# Altium schematic symbol library MCU_ST_STM32F0.SchLib: 133 symbols (part 1 of 3)
Pins are listed as number, name and electrical type; pins without a type are passive.

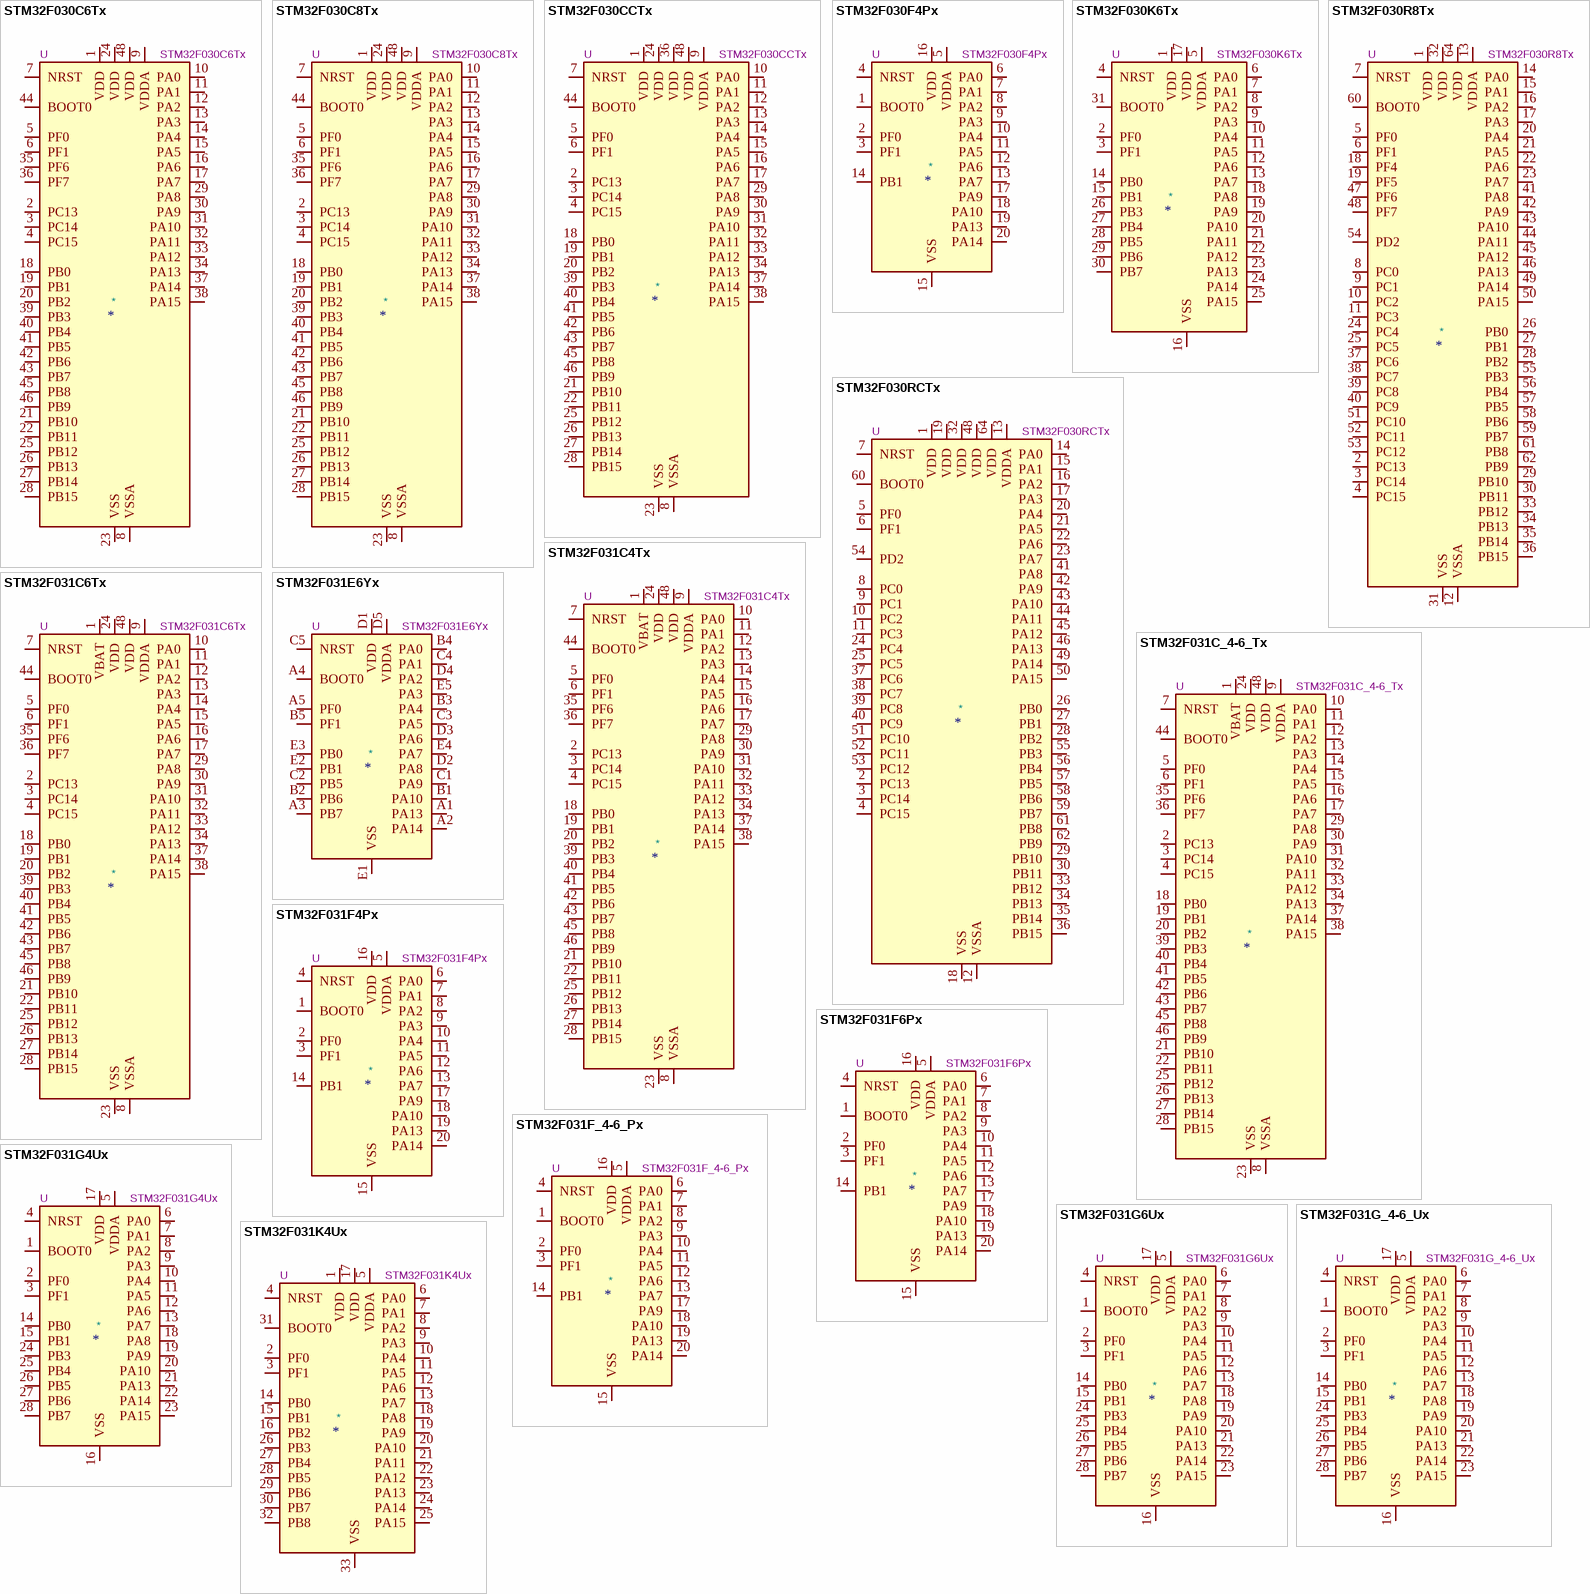
[diagram p0: symbols STM32F030C6Tx to STM32F031K4Ux]

## STM32F030C6Tx
designator *  value STM32F030C6Tx  Reference: U
ki_keywords: Arm Cortex-M0 STM32F0 STM32F0x0 Value Line; ki_description: STMicroelectronics Arm Cortex-M0 MCU, 32KB flash, 4KB RAM, 48 MHz, 2.4-3.6V, 39 GPIO, LQFP48; ki_fp_filters: LQFP*7x7mm*P0.5mm*; Footprint: Package_QFP:LQFP-48_7x7mm_P0.5mm; Datasheet: https://www.st.com/resource/en/datasheet/stm32f030c6.pdf
pins: 1 VDD, 2 PC13, 3 PC14, 4 PC15, 5 PF0, 6 PF1, 7 NRST, 8 VSSA, 9 VDDA, 10 PA0, 11 PA1, 12 PA2, 13 PA3, 14 PA4, 15 PA5, 16 PA6, 17 PA7, 18 PB0, 19 PB1, 20 PB2, 21 PB10, 22 PB11, 23 VSS, 24 VDD, 25 PB12, 26 PB13, 27 PB14, 28 PB15, 29 PA8, 30 PA9, 31 PA10, 32 PA11, 33 PA12, 34 PA13, 35 PF6, 36 PF7, 37 PA14, 38 PA15, 39 PB3, 40 PB4, 41 PB5, 42 PB6, 43 PB7, 44 BOOT0, 45 PB8, 46 PB9, 47 VSS hidden, 48 VDD

## STM32F030C8Tx
designator *  value STM32F030C8Tx  Reference: U
ki_keywords: Arm Cortex-M0 STM32F0 STM32F0x0 Value Line; ki_description: STMicroelectronics Arm Cortex-M0 MCU, 64KB flash, 8KB RAM, 48 MHz, 2.4-3.6V, 39 GPIO, LQFP48; ki_fp_filters: LQFP*7x7mm*P0.5mm*; Footprint: Package_QFP:LQFP-48_7x7mm_P0.5mm; Datasheet: https://www.st.com/resource/en/datasheet/stm32f030c8.pdf
pins: 1 VDD, 2 PC13, 3 PC14, 4 PC15, 5 PF0, 6 PF1, 7 NRST, 8 VSSA, 9 VDDA, 10 PA0, 11 PA1, 12 PA2, 13 PA3, 14 PA4, 15 PA5, 16 PA6, 17 PA7, 18 PB0, 19 PB1, 20 PB2, 21 PB10, 22 PB11, 23 VSS, 24 VDD, 25 PB12, 26 PB13, 27 PB14, 28 PB15, 29 PA8, 30 PA9, 31 PA10, 32 PA11, 33 PA12, 34 PA13, 35 PF6, 36 PF7, 37 PA14, 38 PA15, 39 PB3, 40 PB4, 41 PB5, 42 PB6, 43 PB7, 44 BOOT0, 45 PB8, 46 PB9, 47 VSS hidden, 48 VDD

## STM32F030CCTx
designator *  value STM32F030CCTx  Reference: U
ki_keywords: Arm Cortex-M0 STM32F0 STM32F0x0 Value Line; ki_description: STMicroelectronics Arm Cortex-M0 MCU, 256KB flash, 32KB RAM, 48 MHz, 2.4-3.6V, 37 GPIO, LQFP48; ki_fp_filters: LQFP*7x7mm*P0.5mm*; Footprint: Package_QFP:LQFP-48_7x7mm_P0.5mm; Datasheet: https://www.st.com/resource/en/datasheet/stm32f030cc.pdf
pins: 1 VDD, 2 PC13, 3 PC14, 4 PC15, 5 PF0, 6 PF1, 7 NRST, 8 VSSA, 9 VDDA, 10 PA0, 11 PA1, 12 PA2, 13 PA3, 14 PA4, 15 PA5, 16 PA6, 17 PA7, 18 PB0, 19 PB1, 20 PB2, 21 PB10, 22 PB11, 23 VSS, 24 VDD, 25 PB12, 26 PB13, 27 PB14, 28 PB15, 29 PA8, 30 PA9, 31 PA10, 32 PA11, 33 PA12, 34 PA13, 35 VSS hidden, 36 VDD, 37 PA14, 38 PA15, 39 PB3, 40 PB4, 41 PB5, 42 PB6, 43 PB7, 44 BOOT0, 45 PB8, 46 PB9, 47 VSS hidden, 48 VDD

## STM32F030F4Px
designator *  value STM32F030F4Px  Reference: U
ki_keywords: Arm Cortex-M0 STM32F0 STM32F0x0 Value Line; ki_description: STMicroelectronics Arm Cortex-M0 MCU, 16KB flash, 4KB RAM, 48 MHz, 2.4-3.6V, 15 GPIO, TSSOP20; ki_fp_filters: TSSOP*4.4x6.5mm*P0.65mm*; Footprint: Package_SO:TSSOP-20_4.4x6.5mm_P0.65mm; Datasheet: https://www.st.com/resource/en/datasheet/stm32f030f4.pdf
pins: 1 BOOT0, 2 PF0, 3 PF1, 4 NRST, 5 VDDA, 6 PA0, 7 PA1, 8 PA2, 9 PA3, 10 PA4, 11 PA5, 12 PA6, 13 PA7, 14 PB1, 15 VSS, 16 VDD, 17 PA9, 18 PA10, 19 PA13, 20 PA14

## STM32F030K6Tx
designator *  value STM32F030K6Tx  Reference: U
ki_keywords: Arm Cortex-M0 STM32F0 STM32F0x0 Value Line; ki_description: STMicroelectronics Arm Cortex-M0 MCU, 32KB flash, 4KB RAM, 48 MHz, 2.4-3.6V, 25 GPIO, LQFP32; ki_fp_filters: LQFP*7x7mm*P0.8mm*; Footprint: Package_QFP:LQFP-32_7x7mm_P0.8mm; Datasheet: https://www.st.com/resource/en/datasheet/stm32f030k6.pdf
pins: 1 VDD, 2 PF0, 3 PF1, 4 NRST, 5 VDDA, 6 PA0, 7 PA1, 8 PA2, 9 PA3, 10 PA4, 11 PA5, 12 PA6, 13 PA7, 14 PB0, 15 PB1, 16 VSS, 17 VDD, 18 PA8, 19 PA9, 20 PA10, 21 PA11, 22 PA12, 23 PA13, 24 PA14, 25 PA15, 26 PB3, 27 PB4, 28 PB5, 29 PB6, 30 PB7, 31 BOOT0, 32 VSS hidden

## STM32F030R8Tx
designator *  value STM32F030R8Tx  Reference: U
ki_keywords: Arm Cortex-M0 STM32F0 STM32F0x0 Value Line; ki_description: STMicroelectronics Arm Cortex-M0 MCU, 64KB flash, 8KB RAM, 48 MHz, 2.4-3.6V, 55 GPIO, LQFP64; ki_fp_filters: LQFP*10x10mm*P0.5mm*; Footprint: Package_QFP:LQFP-64_10x10mm_P0.5mm; Datasheet: https://www.st.com/resource/en/datasheet/stm32f030r8.pdf
pins: 1 VDD, 2 PC13, 3 PC14, 4 PC15, 5 PF0, 6 PF1, 7 NRST, 8 PC0, 9 PC1, 10 PC2, 11 PC3, 12 VSSA, 13 VDDA, 14 PA0, 15 PA1, 16 PA2, 17 PA3, 18 PF4, 19 PF5, 20 PA4, 21 PA5, 22 PA6, 23 PA7, 24 PC4, 25 PC5, 26 PB0, 27 PB1, 28 PB2, 29 PB10, 30 PB11, 31 VSS, 32 VDD, 33 PB12, 34 PB13, 35 PB14, 36 PB15, 37 PC6, 38 PC7, 39 PC8, 40 PC9, 41 PA8, 42 PA9, 43 PA10, 44 PA11, 45 PA12, 46 PA13, 47 PF6, 48 PF7, 49 PA14, 50 PA15, 51 PC10, 52 PC11, 53 PC12, 54 PD2, 55 PB3, 56 PB4, 57 PB5, 58 PB6, 59 PB7, 60 BOOT0, 61 PB8, 62 PB9, 63 VSS hidden, 64 VDD

## STM32F030RCTx
designator *  value STM32F030RCTx  Reference: U
ki_keywords: Arm Cortex-M0 STM32F0 STM32F0x0 Value Line; ki_description: STMicroelectronics Arm Cortex-M0 MCU, 256KB flash, 32KB RAM, 48 MHz, 2.4-3.6V, 51 GPIO, LQFP64; ki_fp_filters: LQFP*10x10mm*P0.5mm*; Footprint: Package_QFP:LQFP-64_10x10mm_P0.5mm; Datasheet: https://www.st.com/resource/en/datasheet/stm32f030rc.pdf
pins: 1 VDD, 2 PC13, 3 PC14, 4 PC15, 5 PF0, 6 PF1, 7 NRST, 8 PC0, 9 PC1, 10 PC2, 11 PC3, 12 VSSA, 13 VDDA, 14 PA0, 15 PA1, 16 PA2, 17 PA3, 18 VSS, 19 VDD, 20 PA4, 21 PA5, 22 PA6, 23 PA7, 24 PC4, 25 PC5, 26 PB0, 27 PB1, 28 PB2, 29 PB10, 30 PB11, 31 VSS hidden, 32 VDD, 33 PB12, 34 PB13, 35 PB14, 36 PB15, 37 PC6, 38 PC7, 39 PC8, 40 PC9, 41 PA8, 42 PA9, 43 PA10, 44 PA11, 45 PA12, 46 PA13, 47 VSS hidden, 48 VDD, 49 PA14, 50 PA15, 51 PC10, 52 PC11, 53 PC12, 54 PD2, 55 PB3, 56 PB4, 57 PB5, 58 PB6, 59 PB7, 60 BOOT0, 61 PB8, 62 PB9, 63 VSS hidden, 64 VDD

## STM32F031C4Tx
designator *  value STM32F031C4Tx  Reference: U
ki_keywords: Arm Cortex-M0 STM32F0 STM32F0x1; ki_description: STMicroelectronics Arm Cortex-M0 MCU, 16KB flash, 4KB RAM, 48 MHz, 2.0-3.6V, 39 GPIO, LQFP48; ki_fp_filters: LQFP*7x7mm*P0.5mm*; Footprint: Package_QFP:LQFP-48_7x7mm_P0.5mm; Datasheet: https://www.st.com/resource/en/datasheet/stm32f031c4.pdf
pins: 1 VBAT, 2 PC13, 3 PC14, 4 PC15, 5 PF0, 6 PF1, 7 NRST, 8 VSSA, 9 VDDA, 10 PA0, 11 PA1, 12 PA2, 13 PA3, 14 PA4, 15 PA5, 16 PA6, 17 PA7, 18 PB0, 19 PB1, 20 PB2, 21 PB10, 22 PB11, 23 VSS, 24 VDD, 25 PB12, 26 PB13, 27 PB14, 28 PB15, 29 PA8, 30 PA9, 31 PA10, 32 PA11, 33 PA12, 34 PA13, 35 PF6, 36 PF7, 37 PA14, 38 PA15, 39 PB3, 40 PB4, 41 PB5, 42 PB6, 43 PB7, 44 BOOT0, 45 PB8, 46 PB9, 47 VSS hidden, 48 VDD

## STM32F031C6Tx
designator *  value STM32F031C6Tx  Reference: U
ki_keywords: Arm Cortex-M0 STM32F0 STM32F0x1; ki_description: STMicroelectronics Arm Cortex-M0 MCU, 32KB flash, 4KB RAM, 48 MHz, 2.0-3.6V, 39 GPIO, LQFP48; ki_fp_filters: LQFP*7x7mm*P0.5mm*; Footprint: Package_QFP:LQFP-48_7x7mm_P0.5mm; Datasheet: https://www.st.com/resource/en/datasheet/stm32f031c6.pdf
pins: 1 VBAT, 2 PC13, 3 PC14, 4 PC15, 5 PF0, 6 PF1, 7 NRST, 8 VSSA, 9 VDDA, 10 PA0, 11 PA1, 12 PA2, 13 PA3, 14 PA4, 15 PA5, 16 PA6, 17 PA7, 18 PB0, 19 PB1, 20 PB2, 21 PB10, 22 PB11, 23 VSS, 24 VDD, 25 PB12, 26 PB13, 27 PB14, 28 PB15, 29 PA8, 30 PA9, 31 PA10, 32 PA11, 33 PA12, 34 PA13, 35 PF6, 36 PF7, 37 PA14, 38 PA15, 39 PB3, 40 PB4, 41 PB5, 42 PB6, 43 PB7, 44 BOOT0, 45 PB8, 46 PB9, 47 VSS hidden, 48 VDD

## STM32F031C_4-6_Tx
designator *  value STM32F031C_4-6_Tx  Reference: U
ki_keywords: Arm Cortex-M0 STM32F0 STM32F0x1; ki_description: STMicroelectronics Arm Cortex-M0 MCU, 16-32KB flash, 4KB RAM, 48 MHz, 2.0-3.6V, 39 GPIO, LQFP48; ki_fp_filters: LQFP*7x7mm*P0.5mm*; Footprint: Package_QFP:LQFP-48_7x7mm_P0.5mm; Datasheet: https://www.st.com/resource/en/datasheet/stm32f031c4.pdf
pins: 1 VBAT, 2 PC13, 3 PC14, 4 PC15, 5 PF0, 6 PF1, 7 NRST, 8 VSSA, 9 VDDA, 10 PA0, 11 PA1, 12 PA2, 13 PA3, 14 PA4, 15 PA5, 16 PA6, 17 PA7, 18 PB0, 19 PB1, 20 PB2, 21 PB10, 22 PB11, 23 VSS, 24 VDD, 25 PB12, 26 PB13, 27 PB14, 28 PB15, 29 PA8, 30 PA9, 31 PA10, 32 PA11, 33 PA12, 34 PA13, 35 PF6, 36 PF7, 37 PA14, 38 PA15, 39 PB3, 40 PB4, 41 PB5, 42 PB6, 43 PB7, 44 BOOT0, 45 PB8, 46 PB9, 47 VSS hidden, 48 VDD

## STM32F031E6Yx
designator *  value STM32F031E6Yx  Reference: U
ki_keywords: Arm Cortex-M0 STM32F0 STM32F0x1; ki_description: STMicroelectronics Arm Cortex-M0 MCU, 32KB flash, 4KB RAM, 48 MHz, 2.0-3.6V, 20 GPIO, WLCSP25; ki_fp_filters: ST*WLCSP*Die444*; Footprint: Package_CSP:ST_WLCSP-25_Die444; Datasheet: https://www.st.com/resource/en/datasheet/stm32f031e6.pdf
pins: A1 PA13, A2 PA14, A3 PB7, A4 BOOT0, A5 PF0, B1 PA10, B2 PB6, B3 PA4, B4 PA0, B5 PF1, C1 PA9, C2 PB5, C3 PA5, C4 PA1, C5 NRST, D1 VDD, D2 PA8, D3 PA6, D4 PA2, D5 VDDA, E1 VSS, E2 PB1, E3 PB0, E4 PA7, E5 PA3

## STM32F031F4Px
designator *  value STM32F031F4Px  Reference: U
ki_keywords: Arm Cortex-M0 STM32F0 STM32F0x1; ki_description: STMicroelectronics Arm Cortex-M0 MCU, 16KB flash, 4KB RAM, 48 MHz, 2.0-3.6V, 15 GPIO, TSSOP20; ki_fp_filters: TSSOP*4.4x6.5mm*P0.65mm*; Footprint: Package_SO:TSSOP-20_4.4x6.5mm_P0.65mm; Datasheet: https://www.st.com/resource/en/datasheet/stm32f031f4.pdf
pins: 1 BOOT0, 2 PF0, 3 PF1, 4 NRST, 5 VDDA, 6 PA0, 7 PA1, 8 PA2, 9 PA3, 10 PA4, 11 PA5, 12 PA6, 13 PA7, 14 PB1, 15 VSS, 16 VDD, 17 PA9, 18 PA10, 19 PA13, 20 PA14

## STM32F031F6Px
designator *  value STM32F031F6Px  Reference: U
ki_keywords: Arm Cortex-M0 STM32F0 STM32F0x1; ki_description: STMicroelectronics Arm Cortex-M0 MCU, 32KB flash, 4KB RAM, 48 MHz, 2.0-3.6V, 15 GPIO, TSSOP20; ki_fp_filters: TSSOP*4.4x6.5mm*P0.65mm*; Footprint: Package_SO:TSSOP-20_4.4x6.5mm_P0.65mm; Datasheet: https://www.st.com/resource/en/datasheet/stm32f031f6.pdf
pins: 1 BOOT0, 2 PF0, 3 PF1, 4 NRST, 5 VDDA, 6 PA0, 7 PA1, 8 PA2, 9 PA3, 10 PA4, 11 PA5, 12 PA6, 13 PA7, 14 PB1, 15 VSS, 16 VDD, 17 PA9, 18 PA10, 19 PA13, 20 PA14

## STM32F031F_4-6_Px
designator *  value STM32F031F_4-6_Px  Reference: U
ki_keywords: Arm Cortex-M0 STM32F0 STM32F0x1; ki_description: STMicroelectronics Arm Cortex-M0 MCU, 16-32KB flash, 4KB RAM, 48 MHz, 2.0-3.6V, 15 GPIO, TSSOP20; ki_fp_filters: TSSOP*4.4x6.5mm*P0.65mm*; Footprint: Package_SO:TSSOP-20_4.4x6.5mm_P0.65mm; Datasheet: https://www.st.com/resource/en/datasheet/stm32f031f4.pdf
pins: 1 BOOT0, 2 PF0, 3 PF1, 4 NRST, 5 VDDA, 6 PA0, 7 PA1, 8 PA2, 9 PA3, 10 PA4, 11 PA5, 12 PA6, 13 PA7, 14 PB1, 15 VSS, 16 VDD, 17 PA9, 18 PA10, 19 PA13, 20 PA14

## STM32F031G4Ux
designator *  value STM32F031G4Ux  Reference: U
ki_keywords: Arm Cortex-M0 STM32F0 STM32F0x1; ki_description: STMicroelectronics Arm Cortex-M0 MCU, 16KB flash, 4KB RAM, 48 MHz, 2.0-3.6V, 23 GPIO, UFQFPN28; ki_fp_filters: QFN*4x4mm*P0.5mm*; Footprint: Package_DFN_QFN:QFN-28_4x4mm_P0.5mm; Datasheet: https://www.st.com/resource/en/datasheet/stm32f031g4.pdf
pins: 1 BOOT0, 2 PF0, 3 PF1, 4 NRST, 5 VDDA, 6 PA0, 7 PA1, 8 PA2, 9 PA3, 10 PA4, 11 PA5, 12 PA6, 13 PA7, 14 PB0, 15 PB1, 16 VSS, 17 VDD, 18 PA8, 19 PA9, 20 PA10, 21 PA13, 22 PA14, 23 PA15, 24 PB3, 25 PB4, 26 PB5, 27 PB6, 28 PB7

## STM32F031G6Ux
designator *  value STM32F031G6Ux  Reference: U
ki_keywords: Arm Cortex-M0 STM32F0 STM32F0x1; ki_description: STMicroelectronics Arm Cortex-M0 MCU, 32KB flash, 4KB RAM, 48 MHz, 2.0-3.6V, 23 GPIO, UFQFPN28; ki_fp_filters: QFN*4x4mm*P0.5mm*; Footprint: Package_DFN_QFN:QFN-28_4x4mm_P0.5mm; Datasheet: https://www.st.com/resource/en/datasheet/stm32f031g6.pdf
pins: 1 BOOT0, 2 PF0, 3 PF1, 4 NRST, 5 VDDA, 6 PA0, 7 PA1, 8 PA2, 9 PA3, 10 PA4, 11 PA5, 12 PA6, 13 PA7, 14 PB0, 15 PB1, 16 VSS, 17 VDD, 18 PA8, 19 PA9, 20 PA10, 21 PA13, 22 PA14, 23 PA15, 24 PB3, 25 PB4, 26 PB5, 27 PB6, 28 PB7

## STM32F031G_4-6_Ux
designator *  value STM32F031G_4-6_Ux  Reference: U
ki_keywords: Arm Cortex-M0 STM32F0 STM32F0x1; ki_description: STMicroelectronics Arm Cortex-M0 MCU, 16-32KB flash, 4KB RAM, 48 MHz, 2.0-3.6V, 23 GPIO, UFQFPN28; ki_fp_filters: QFN*4x4mm*P0.5mm*; Footprint: Package_DFN_QFN:QFN-28_4x4mm_P0.5mm; Datasheet: https://www.st.com/resource/en/datasheet/stm32f031g4.pdf
pins: 1 BOOT0, 2 PF0, 3 PF1, 4 NRST, 5 VDDA, 6 PA0, 7 PA1, 8 PA2, 9 PA3, 10 PA4, 11 PA5, 12 PA6, 13 PA7, 14 PB0, 15 PB1, 16 VSS, 17 VDD, 18 PA8, 19 PA9, 20 PA10, 21 PA13, 22 PA14, 23 PA15, 24 PB3, 25 PB4, 26 PB5, 27 PB6, 28 PB7

## STM32F031K4Ux
designator *  value STM32F031K4Ux  Reference: U
ki_keywords: Arm Cortex-M0 STM32F0 STM32F0x1; ki_description: STMicroelectronics Arm Cortex-M0 MCU, 16KB flash, 4KB RAM, 48 MHz, 2.0-3.6V, 27 GPIO, UFQFPN32; ki_fp_filters: QFN*1EP*5x5mm*P0.5mm*; Footprint: Package_DFN_QFN:QFN-32-1EP_5x5mm_P0.5mm_EP3.45x3.45mm; Datasheet: https://www.st.com/resource/en/datasheet/stm32f031k4.pdf
pins: 1 VDD, 2 PF0, 3 PF1, 4 NRST, 5 VDDA, 6 PA0, 7 PA1, 8 PA2, 9 PA3, 10 PA4, 11 PA5, 12 PA6, 13 PA7, 14 PB0, 15 PB1, 16 PB2, 17 VDD, 18 PA8, 19 PA9, 20 PA10, 21 PA11, 22 PA12, 23 PA13, 24 PA14, 25 PA15, 26 PB3, 27 PB4, 28 PB5, 29 PB6, 30 PB7, 31 BOOT0, 32 PB8, 33 VSS

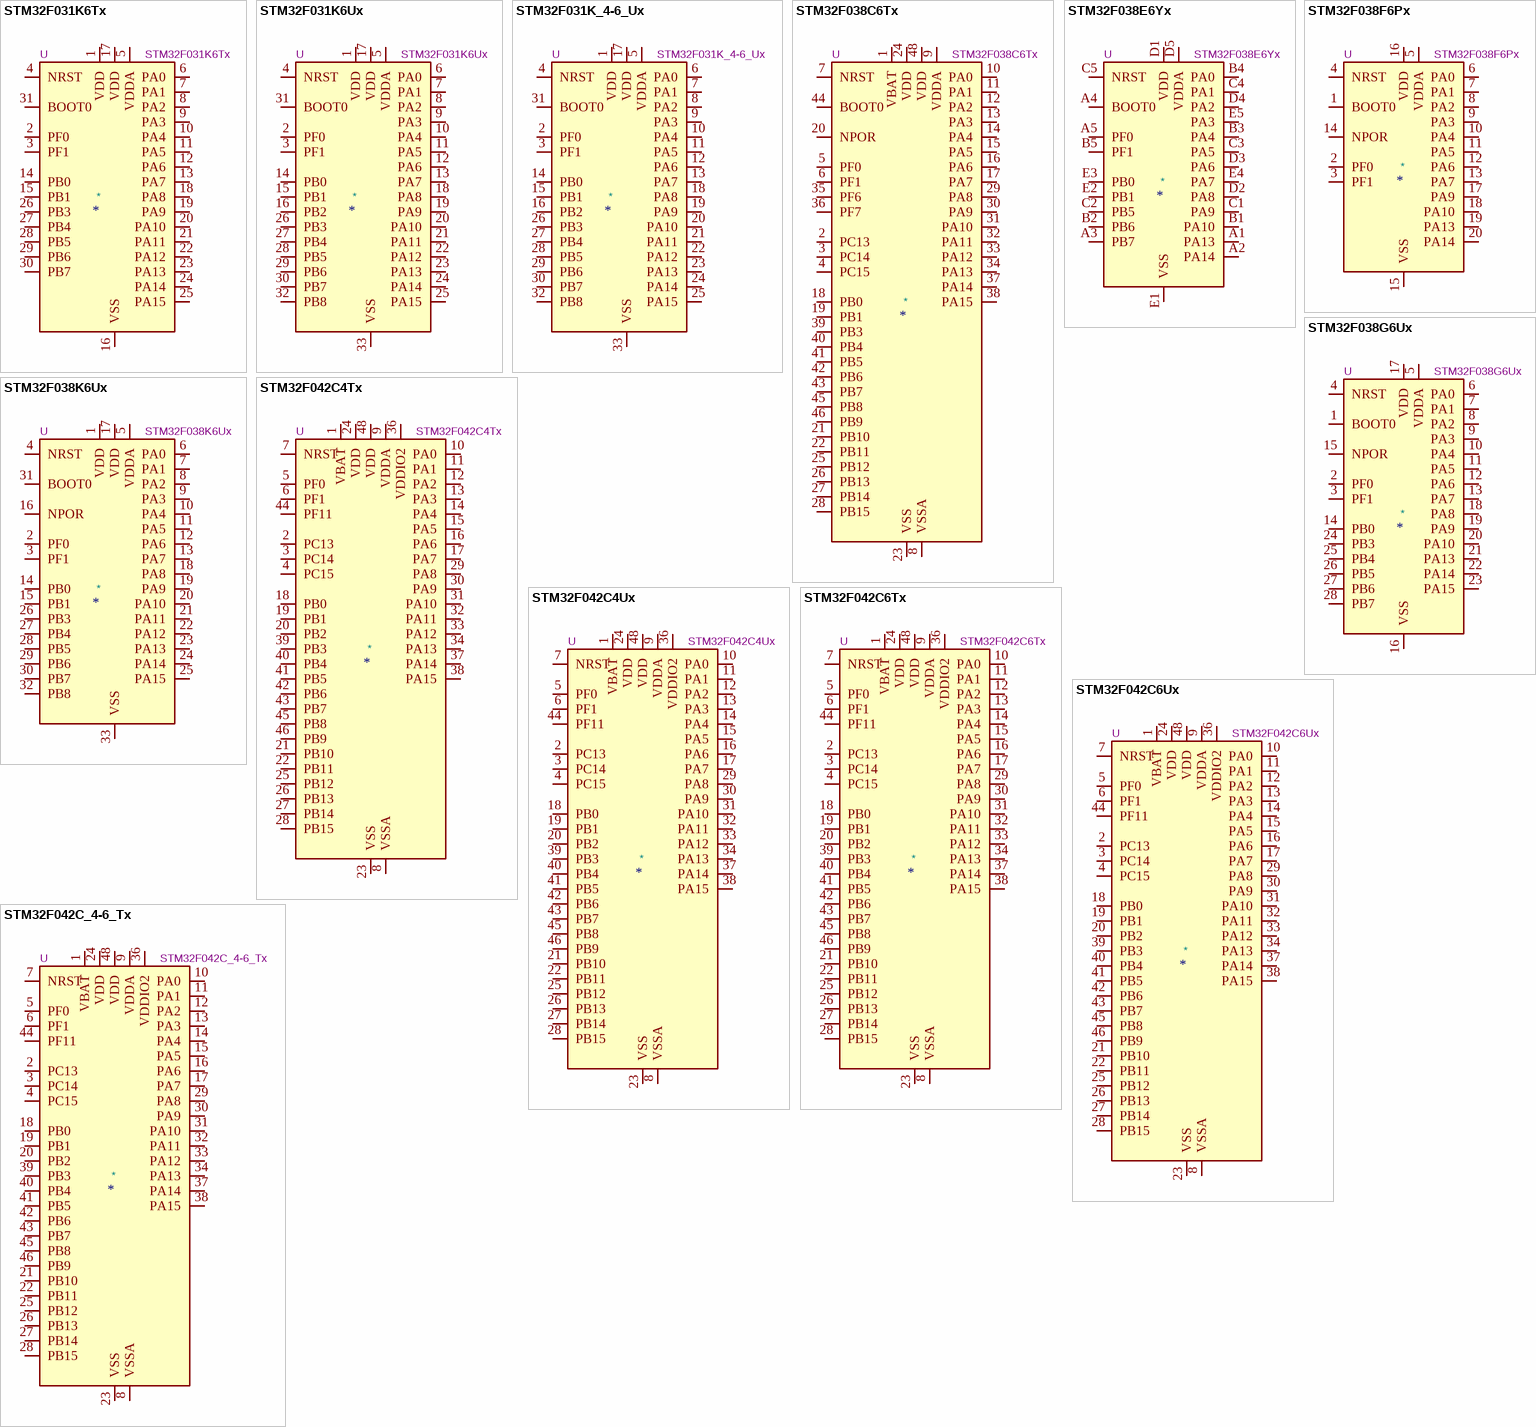
[diagram p1: symbols STM32F031K6Tx to STM32F042C_4-6_Tx]

## STM32F031K6Tx
designator *  value STM32F031K6Tx  Reference: U
ki_keywords: Arm Cortex-M0 STM32F0 STM32F0x1; ki_description: STMicroelectronics Arm Cortex-M0 MCU, 32KB flash, 4KB RAM, 48 MHz, 2.0-3.6V, 25 GPIO, LQFP32; ki_fp_filters: LQFP*7x7mm*P0.8mm*; Footprint: Package_QFP:LQFP-32_7x7mm_P0.8mm; Datasheet: https://www.st.com/resource/en/datasheet/stm32f031k6.pdf
pins: 1 VDD, 2 PF0, 3 PF1, 4 NRST, 5 VDDA, 6 PA0, 7 PA1, 8 PA2, 9 PA3, 10 PA4, 11 PA5, 12 PA6, 13 PA7, 14 PB0, 15 PB1, 16 VSS, 17 VDD, 18 PA8, 19 PA9, 20 PA10, 21 PA11, 22 PA12, 23 PA13, 24 PA14, 25 PA15, 26 PB3, 27 PB4, 28 PB5, 29 PB6, 30 PB7, 31 BOOT0, 32 VSS hidden

## STM32F031K6Ux
designator *  value STM32F031K6Ux  Reference: U
ki_keywords: Arm Cortex-M0 STM32F0 STM32F0x1; ki_description: STMicroelectronics Arm Cortex-M0 MCU, 32KB flash, 4KB RAM, 48 MHz, 2.0-3.6V, 27 GPIO, UFQFPN32; ki_fp_filters: QFN*1EP*5x5mm*P0.5mm*; Footprint: Package_DFN_QFN:QFN-32-1EP_5x5mm_P0.5mm_EP3.45x3.45mm; Datasheet: https://www.st.com/resource/en/datasheet/stm32f031k6.pdf
pins: 1 VDD, 2 PF0, 3 PF1, 4 NRST, 5 VDDA, 6 PA0, 7 PA1, 8 PA2, 9 PA3, 10 PA4, 11 PA5, 12 PA6, 13 PA7, 14 PB0, 15 PB1, 16 PB2, 17 VDD, 18 PA8, 19 PA9, 20 PA10, 21 PA11, 22 PA12, 23 PA13, 24 PA14, 25 PA15, 26 PB3, 27 PB4, 28 PB5, 29 PB6, 30 PB7, 31 BOOT0, 32 PB8, 33 VSS

## STM32F031K_4-6_Ux
designator *  value STM32F031K_4-6_Ux  Reference: U
ki_keywords: Arm Cortex-M0 STM32F0 STM32F0x1; ki_description: STMicroelectronics Arm Cortex-M0 MCU, 16-32KB flash, 4KB RAM, 48 MHz, 2.0-3.6V, 27 GPIO, UFQFPN32; ki_fp_filters: QFN*1EP*5x5mm*P0.5mm*; Footprint: Package_DFN_QFN:QFN-32-1EP_5x5mm_P0.5mm_EP3.45x3.45mm; Datasheet: https://www.st.com/resource/en/datasheet/stm32f031k4.pdf
pins: 1 VDD, 2 PF0, 3 PF1, 4 NRST, 5 VDDA, 6 PA0, 7 PA1, 8 PA2, 9 PA3, 10 PA4, 11 PA5, 12 PA6, 13 PA7, 14 PB0, 15 PB1, 16 PB2, 17 VDD, 18 PA8, 19 PA9, 20 PA10, 21 PA11, 22 PA12, 23 PA13, 24 PA14, 25 PA15, 26 PB3, 27 PB4, 28 PB5, 29 PB6, 30 PB7, 31 BOOT0, 32 PB8, 33 VSS

## STM32F038C6Tx
designator *  value STM32F038C6Tx  Reference: U
ki_keywords: Arm Cortex-M0 STM32F0 STM32F0x8; ki_description: STMicroelectronics Arm Cortex-M0 MCU, 32KB flash, 4KB RAM, 48 MHz, 1.65-1.95V, 38 GPIO, LQFP48; ki_fp_filters: LQFP*7x7mm*P0.5mm*; Footprint: Package_QFP:LQFP-48_7x7mm_P0.5mm; Datasheet: https://www.st.com/resource/en/datasheet/stm32f038c6.pdf
pins: 1 VBAT, 2 PC13, 3 PC14, 4 PC15, 5 PF0, 6 PF1, 7 NRST, 8 VSSA, 9 VDDA, 10 PA0, 11 PA1, 12 PA2, 13 PA3, 14 PA4, 15 PA5, 16 PA6, 17 PA7, 18 PB0, 19 PB1, 20 NPOR, 21 PB10, 22 PB11, 23 VSS, 24 VDD, 25 PB12, 26 PB13, 27 PB14, 28 PB15, 29 PA8, 30 PA9, 31 PA10, 32 PA11, 33 PA12, 34 PA13, 35 PF6, 36 PF7, 37 PA14, 38 PA15, 39 PB3, 40 PB4, 41 PB5, 42 PB6, 43 PB7, 44 BOOT0, 45 PB8, 46 PB9, 47 VSS hidden, 48 VDD

## STM32F038E6Yx
designator *  value STM32F038E6Yx  Reference: U
ki_keywords: Arm Cortex-M0 STM32F0 STM32F0x8; ki_description: STMicroelectronics Arm Cortex-M0 MCU, 32KB flash, 4KB RAM, 48 MHz, 1.65-1.95V, 20 GPIO, WLCSP25; ki_fp_filters: ST*WLCSP*Die444*; Footprint: Package_CSP:ST_WLCSP-25_Die444; Datasheet: https://www.st.com/resource/en/datasheet/stm32f038e6.pdf
pins: A1 PA13, A2 PA14, A3 PB7, A4 BOOT0, A5 PF0, B1 PA10, B2 PB6, B3 PA4, B4 PA0, B5 PF1, C1 PA9, C2 PB5, C3 PA5, C4 PA1, C5 NRST, D1 VDD, D2 PA8, D3 PA6, D4 PA2, D5 VDDA, E1 VSS, E2 PB1, E3 PB0, E4 PA7, E5 PA3

## STM32F038F6Px
designator *  value STM32F038F6Px  Reference: U
ki_keywords: Arm Cortex-M0 STM32F0 STM32F0x8; ki_description: STMicroelectronics Arm Cortex-M0 MCU, 32KB flash, 4KB RAM, 48 MHz, 1.65-1.95V, 14 GPIO, TSSOP20; ki_fp_filters: TSSOP*4.4x6.5mm*P0.65mm*; Footprint: Package_SO:TSSOP-20_4.4x6.5mm_P0.65mm; Datasheet: https://www.st.com/resource/en/datasheet/stm32f038f6.pdf
pins: 1 BOOT0, 2 PF0, 3 PF1, 4 NRST, 5 VDDA, 6 PA0, 7 PA1, 8 PA2, 9 PA3, 10 PA4, 11 PA5, 12 PA6, 13 PA7, 14 NPOR, 15 VSS, 16 VDD, 17 PA9, 18 PA10, 19 PA13, 20 PA14

## STM32F038G6Ux
designator *  value STM32F038G6Ux  Reference: U
ki_keywords: Arm Cortex-M0 STM32F0 STM32F0x8; ki_description: STMicroelectronics Arm Cortex-M0 MCU, 32KB flash, 4KB RAM, 48 MHz, 1.65-1.95V, 22 GPIO, UFQFPN28; ki_fp_filters: QFN*4x4mm*P0.5mm*; Footprint: Package_DFN_QFN:QFN-28_4x4mm_P0.5mm; Datasheet: https://www.st.com/resource/en/datasheet/stm32f038g6.pdf
pins: 1 BOOT0, 2 PF0, 3 PF1, 4 NRST, 5 VDDA, 6 PA0, 7 PA1, 8 PA2, 9 PA3, 10 PA4, 11 PA5, 12 PA6, 13 PA7, 14 PB0, 15 NPOR, 16 VSS, 17 VDD, 18 PA8, 19 PA9, 20 PA10, 21 PA13, 22 PA14, 23 PA15, 24 PB3, 25 PB4, 26 PB5, 27 PB6, 28 PB7

## STM32F038K6Ux
designator *  value STM32F038K6Ux  Reference: U
ki_keywords: Arm Cortex-M0 STM32F0 STM32F0x8; ki_description: STMicroelectronics Arm Cortex-M0 MCU, 32KB flash, 4KB RAM, 48 MHz, 1.65-1.95V, 26 GPIO, UFQFPN32; ki_fp_filters: QFN*1EP*5x5mm*P0.5mm*; Footprint: Package_DFN_QFN:QFN-32-1EP_5x5mm_P0.5mm_EP3.45x3.45mm; Datasheet: https://www.st.com/resource/en/datasheet/stm32f038k6.pdf
pins: 1 VDD, 2 PF0, 3 PF1, 4 NRST, 5 VDDA, 6 PA0, 7 PA1, 8 PA2, 9 PA3, 10 PA4, 11 PA5, 12 PA6, 13 PA7, 14 PB0, 15 PB1, 16 NPOR, 17 VDD, 18 PA8, 19 PA9, 20 PA10, 21 PA11, 22 PA12, 23 PA13, 24 PA14, 25 PA15, 26 PB3, 27 PB4, 28 PB5, 29 PB6, 30 PB7, 31 BOOT0, 32 PB8, 33 VSS

## STM32F042C4Tx
designator *  value STM32F042C4Tx  Reference: U
ki_keywords: Arm Cortex-M0 STM32F0 STM32F0x2; ki_description: STMicroelectronics Arm Cortex-M0 MCU, 16KB flash, 6KB RAM, 48 MHz, 2.0-3.6V, 38 GPIO, LQFP48; ki_fp_filters: LQFP*7x7mm*P0.5mm*; Footprint: Package_QFP:LQFP-48_7x7mm_P0.5mm; Datasheet: https://www.st.com/resource/en/datasheet/stm32f042c4.pdf
pins: 1 VBAT, 2 PC13, 3 PC14, 4 PC15, 5 PF0, 6 PF1, 7 NRST, 8 VSSA, 9 VDDA, 10 PA0, 11 PA1, 12 PA2, 13 PA3, 14 PA4, 15 PA5, 16 PA6, 17 PA7, 18 PB0, 19 PB1, 20 PB2, 21 PB10, 22 PB11, 23 VSS, 24 VDD, 25 PB12, 26 PB13, 27 PB14, 28 PB15, 29 PA8, 30 PA9, 31 PA10, 32 PA11, 33 PA12, 34 PA13, 35 VSS hidden, 36 VDDIO2, 37 PA14, 38 PA15, 39 PB3, 40 PB4, 41 PB5, 42 PB6, 43 PB7, 44 PF11, 45 PB8, 46 PB9, 47 VSS hidden, 48 VDD

## STM32F042C4Ux
designator *  value STM32F042C4Ux  Reference: U
ki_keywords: Arm Cortex-M0 STM32F0 STM32F0x2; ki_description: STMicroelectronics Arm Cortex-M0 MCU, 16KB flash, 6KB RAM, 48 MHz, 2.0-3.6V, 38 GPIO, UFQFPN48; ki_fp_filters: QFN*1EP*7x7mm*P0.5mm*; Footprint: Package_DFN_QFN:QFN-48-1EP_7x7mm_P0.5mm_EP5.6x5.6mm; Datasheet: https://www.st.com/resource/en/datasheet/stm32f042c4.pdf
pins: 1 VBAT, 2 PC13, 3 PC14, 4 PC15, 5 PF0, 6 PF1, 7 NRST, 8 VSSA, 9 VDDA, 10 PA0, 11 PA1, 12 PA2, 13 PA3, 14 PA4, 15 PA5, 16 PA6, 17 PA7, 18 PB0, 19 PB1, 20 PB2, 21 PB10, 22 PB11, 23 VSS, 24 VDD, 25 PB12, 26 PB13, 27 PB14, 28 PB15, 29 PA8, 30 PA9, 31 PA10, 32 PA11, 33 PA12, 34 PA13, 35 VSS hidden, 36 VDDIO2, 37 PA14, 38 PA15, 39 PB3, 40 PB4, 41 PB5, 42 PB6, 43 PB7, 44 PF11, 45 PB8, 46 PB9, 47 VSS hidden, 48 VDD, 49 VSS hidden

## STM32F042C6Tx
designator *  value STM32F042C6Tx  Reference: U
ki_keywords: Arm Cortex-M0 STM32F0 STM32F0x2; ki_description: STMicroelectronics Arm Cortex-M0 MCU, 32KB flash, 6KB RAM, 48 MHz, 2.0-3.6V, 38 GPIO, LQFP48; ki_fp_filters: LQFP*7x7mm*P0.5mm*; Footprint: Package_QFP:LQFP-48_7x7mm_P0.5mm; Datasheet: https://www.st.com/resource/en/datasheet/stm32f042c6.pdf
pins: 1 VBAT, 2 PC13, 3 PC14, 4 PC15, 5 PF0, 6 PF1, 7 NRST, 8 VSSA, 9 VDDA, 10 PA0, 11 PA1, 12 PA2, 13 PA3, 14 PA4, 15 PA5, 16 PA6, 17 PA7, 18 PB0, 19 PB1, 20 PB2, 21 PB10, 22 PB11, 23 VSS, 24 VDD, 25 PB12, 26 PB13, 27 PB14, 28 PB15, 29 PA8, 30 PA9, 31 PA10, 32 PA11, 33 PA12, 34 PA13, 35 VSS hidden, 36 VDDIO2, 37 PA14, 38 PA15, 39 PB3, 40 PB4, 41 PB5, 42 PB6, 43 PB7, 44 PF11, 45 PB8, 46 PB9, 47 VSS hidden, 48 VDD

## STM32F042C6Ux
designator *  value STM32F042C6Ux  Reference: U
ki_keywords: Arm Cortex-M0 STM32F0 STM32F0x2; ki_description: STMicroelectronics Arm Cortex-M0 MCU, 32KB flash, 6KB RAM, 48 MHz, 2.0-3.6V, 38 GPIO, UFQFPN48; ki_fp_filters: QFN*1EP*7x7mm*P0.5mm*; Footprint: Package_DFN_QFN:QFN-48-1EP_7x7mm_P0.5mm_EP5.6x5.6mm; Datasheet: https://www.st.com/resource/en/datasheet/stm32f042c6.pdf
pins: 1 VBAT, 2 PC13, 3 PC14, 4 PC15, 5 PF0, 6 PF1, 7 NRST, 8 VSSA, 9 VDDA, 10 PA0, 11 PA1, 12 PA2, 13 PA3, 14 PA4, 15 PA5, 16 PA6, 17 PA7, 18 PB0, 19 PB1, 20 PB2, 21 PB10, 22 PB11, 23 VSS, 24 VDD, 25 PB12, 26 PB13, 27 PB14, 28 PB15, 29 PA8, 30 PA9, 31 PA10, 32 PA11, 33 PA12, 34 PA13, 35 VSS hidden, 36 VDDIO2, 37 PA14, 38 PA15, 39 PB3, 40 PB4, 41 PB5, 42 PB6, 43 PB7, 44 PF11, 45 PB8, 46 PB9, 47 VSS hidden, 48 VDD, 49 VSS hidden

## STM32F042C_4-6_Tx
designator *  value STM32F042C_4-6_Tx  Reference: U
ki_keywords: Arm Cortex-M0 STM32F0 STM32F0x2; ki_description: STMicroelectronics Arm Cortex-M0 MCU, 16-32KB flash, 6KB RAM, 48 MHz, 2.0-3.6V, 38 GPIO, LQFP48; ki_fp_filters: LQFP*7x7mm*P0.5mm*; Footprint: Package_QFP:LQFP-48_7x7mm_P0.5mm; Datasheet: https://www.st.com/resource/en/datasheet/stm32f042c4.pdf
pins: 1 VBAT, 2 PC13, 3 PC14, 4 PC15, 5 PF0, 6 PF1, 7 NRST, 8 VSSA, 9 VDDA, 10 PA0, 11 PA1, 12 PA2, 13 PA3, 14 PA4, 15 PA5, 16 PA6, 17 PA7, 18 PB0, 19 PB1, 20 PB2, 21 PB10, 22 PB11, 23 VSS, 24 VDD, 25 PB12, 26 PB13, 27 PB14, 28 PB15, 29 PA8, 30 PA9, 31 PA10, 32 PA11, 33 PA12, 34 PA13, 35 VSS hidden, 36 VDDIO2, 37 PA14, 38 PA15, 39 PB3, 40 PB4, 41 PB5, 42 PB6, 43 PB7, 44 PF11, 45 PB8, 46 PB9, 47 VSS hidden, 48 VDD

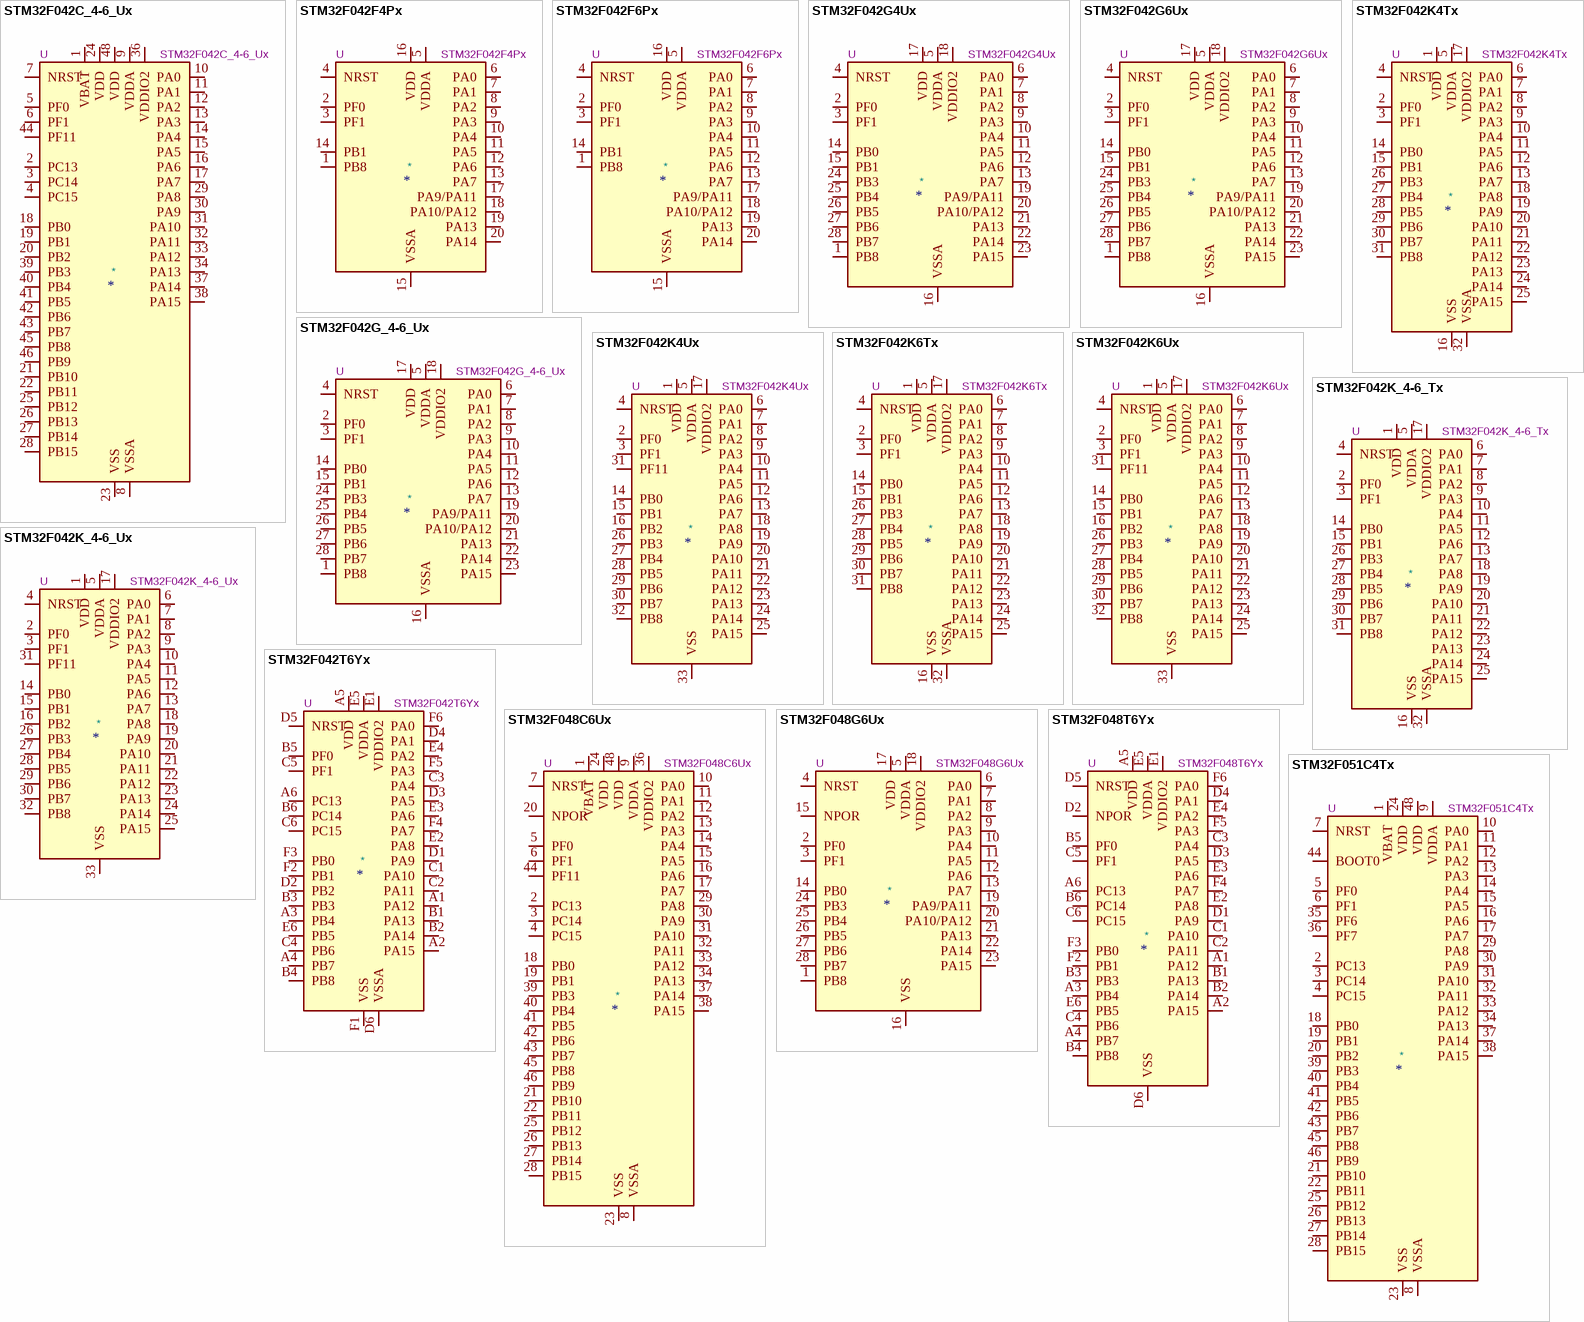
[diagram p2: symbols STM32F042C_4-6_Ux to STM32F051C4Tx]

## STM32F042C_4-6_Ux
designator *  value STM32F042C_4-6_Ux  Reference: U
ki_keywords: Arm Cortex-M0 STM32F0 STM32F0x2; ki_description: STMicroelectronics Arm Cortex-M0 MCU, 16-32KB flash, 6KB RAM, 48 MHz, 2.0-3.6V, 38 GPIO, UFQFPN48; ki_fp_filters: QFN*1EP*7x7mm*P0.5mm*; Footprint: Package_DFN_QFN:QFN-48-1EP_7x7mm_P0.5mm_EP5.6x5.6mm; Datasheet: https://www.st.com/resource/en/datasheet/stm32f042c4.pdf
pins: 1 VBAT, 2 PC13, 3 PC14, 4 PC15, 5 PF0, 6 PF1, 7 NRST, 8 VSSA, 9 VDDA, 10 PA0, 11 PA1, 12 PA2, 13 PA3, 14 PA4, 15 PA5, 16 PA6, 17 PA7, 18 PB0, 19 PB1, 20 PB2, 21 PB10, 22 PB11, 23 VSS, 24 VDD, 25 PB12, 26 PB13, 27 PB14, 28 PB15, 29 PA8, 30 PA9, 31 PA10, 32 PA11, 33 PA12, 34 PA13, 35 VSS hidden, 36 VDDIO2, 37 PA14, 38 PA15, 39 PB3, 40 PB4, 41 PB5, 42 PB6, 43 PB7, 44 PF11, 45 PB8, 46 PB9, 47 VSS hidden, 48 VDD, 49 VSS hidden

## STM32F042F4Px
designator *  value STM32F042F4Px  Reference: U
ki_keywords: Arm Cortex-M0 STM32F0 STM32F0x2; ki_description: STMicroelectronics Arm Cortex-M0 MCU, 16KB flash, 6KB RAM, 48 MHz, 2.0-3.6V, 16 GPIO, TSSOP20; ki_fp_filters: TSSOP*4.4x6.5mm*P0.65mm*; Footprint: Package_SO:TSSOP-20_4.4x6.5mm_P0.65mm; Datasheet: https://www.st.com/resource/en/datasheet/stm32f042f4.pdf
pins: 1 PB8, 2 PF0, 3 PF1, 4 NRST, 5 VDDA, 6 PA0, 7 PA1, 8 PA2, 9 PA3, 10 PA4, 11 PA5, 12 PA6, 13 PA7, 14 PB1, 15 VSSA, 16 VDD, 17 PA9/PA11, 18 PA10/PA12, 19 PA13, 20 PA14

## STM32F042F6Px
designator *  value STM32F042F6Px  Reference: U
ki_keywords: Arm Cortex-M0 STM32F0 STM32F0x2; ki_description: STMicroelectronics Arm Cortex-M0 MCU, 32KB flash, 6KB RAM, 48 MHz, 2.0-3.6V, 16 GPIO, TSSOP20; ki_fp_filters: TSSOP*4.4x6.5mm*P0.65mm*; Footprint: Package_SO:TSSOP-20_4.4x6.5mm_P0.65mm; Datasheet: https://www.st.com/resource/en/datasheet/stm32f042f6.pdf
pins: 1 PB8, 2 PF0, 3 PF1, 4 NRST, 5 VDDA, 6 PA0, 7 PA1, 8 PA2, 9 PA3, 10 PA4, 11 PA5, 12 PA6, 13 PA7, 14 PB1, 15 VSSA, 16 VDD, 17 PA9/PA11, 18 PA10/PA12, 19 PA13, 20 PA14

## STM32F042G4Ux
designator *  value STM32F042G4Ux  Reference: U
ki_keywords: Arm Cortex-M0 STM32F0 STM32F0x2; ki_description: STMicroelectronics Arm Cortex-M0 MCU, 16KB flash, 6KB RAM, 48 MHz, 2.0-3.6V, 23 GPIO, UFQFPN28; ki_fp_filters: QFN*4x4mm*P0.5mm*; Footprint: Package_DFN_QFN:QFN-28_4x4mm_P0.5mm; Datasheet: https://www.st.com/resource/en/datasheet/stm32f042g4.pdf
pins: 1 PB8, 2 PF0, 3 PF1, 4 NRST, 5 VDDA, 6 PA0, 7 PA1, 8 PA2, 9 PA3, 10 PA4, 11 PA5, 12 PA6, 13 PA7, 14 PB0, 15 PB1, 16 VSSA, 17 VDD, 18 VDDIO2, 19 PA9/PA11, 20 PA10/PA12, 21 PA13, 22 PA14, 23 PA15, 24 PB3, 25 PB4, 26 PB5, 27 PB6, 28 PB7

## STM32F042G6Ux
designator *  value STM32F042G6Ux  Reference: U
ki_keywords: Arm Cortex-M0 STM32F0 STM32F0x2; ki_description: STMicroelectronics Arm Cortex-M0 MCU, 32KB flash, 6KB RAM, 48 MHz, 2.0-3.6V, 23 GPIO, UFQFPN28; ki_fp_filters: QFN*4x4mm*P0.5mm*; Footprint: Package_DFN_QFN:QFN-28_4x4mm_P0.5mm; Datasheet: https://www.st.com/resource/en/datasheet/stm32f042g6.pdf
pins: 1 PB8, 2 PF0, 3 PF1, 4 NRST, 5 VDDA, 6 PA0, 7 PA1, 8 PA2, 9 PA3, 10 PA4, 11 PA5, 12 PA6, 13 PA7, 14 PB0, 15 PB1, 16 VSSA, 17 VDD, 18 VDDIO2, 19 PA9/PA11, 20 PA10/PA12, 21 PA13, 22 PA14, 23 PA15, 24 PB3, 25 PB4, 26 PB5, 27 PB6, 28 PB7

## STM32F042G_4-6_Ux
designator *  value STM32F042G_4-6_Ux  Reference: U
ki_keywords: Arm Cortex-M0 STM32F0 STM32F0x2; ki_description: STMicroelectronics Arm Cortex-M0 MCU, 16-32KB flash, 6KB RAM, 48 MHz, 2.0-3.6V, 23 GPIO, UFQFPN28; ki_fp_filters: QFN*4x4mm*P0.5mm*; Footprint: Package_DFN_QFN:QFN-28_4x4mm_P0.5mm; Datasheet: https://www.st.com/resource/en/datasheet/stm32f042g4.pdf
pins: 1 PB8, 2 PF0, 3 PF1, 4 NRST, 5 VDDA, 6 PA0, 7 PA1, 8 PA2, 9 PA3, 10 PA4, 11 PA5, 12 PA6, 13 PA7, 14 PB0, 15 PB1, 16 VSSA, 17 VDD, 18 VDDIO2, 19 PA9/PA11, 20 PA10/PA12, 21 PA13, 22 PA14, 23 PA15, 24 PB3, 25 PB4, 26 PB5, 27 PB6, 28 PB7

## STM32F042K4Tx
designator *  value STM32F042K4Tx  Reference: U
ki_keywords: Arm Cortex-M0 STM32F0 STM32F0x2; ki_description: STMicroelectronics Arm Cortex-M0 MCU, 16KB flash, 6KB RAM, 48 MHz, 2.0-3.6V, 26 GPIO, LQFP32; ki_fp_filters: LQFP*7x7mm*P0.8mm*; Footprint: Package_QFP:LQFP-32_7x7mm_P0.8mm; Datasheet: https://www.st.com/resource/en/datasheet/stm32f042k4.pdf
pins: 1 VDD, 2 PF0, 3 PF1, 4 NRST, 5 VDDA, 6 PA0, 7 PA1, 8 PA2, 9 PA3, 10 PA4, 11 PA5, 12 PA6, 13 PA7, 14 PB0, 15 PB1, 16 VSS, 17 VDDIO2, 18 PA8, 19 PA9, 20 PA10, 21 PA11, 22 PA12, 23 PA13, 24 PA14, 25 PA15, 26 PB3, 27 PB4, 28 PB5, 29 PB6, 30 PB7, 31 PB8, 32 VSSA

## STM32F042K4Ux
designator *  value STM32F042K4Ux  Reference: U
ki_keywords: Arm Cortex-M0 STM32F0 STM32F0x2; ki_description: STMicroelectronics Arm Cortex-M0 MCU, 16KB flash, 6KB RAM, 48 MHz, 2.0-3.6V, 28 GPIO, UFQFPN32; ki_fp_filters: QFN*1EP*5x5mm*P0.5mm*; Footprint: Package_DFN_QFN:QFN-32-1EP_5x5mm_P0.5mm_EP3.45x3.45mm; Datasheet: https://www.st.com/resource/en/datasheet/stm32f042k4.pdf
pins: 1 VDD, 2 PF0, 3 PF1, 4 NRST, 5 VDDA, 6 PA0, 7 PA1, 8 PA2, 9 PA3, 10 PA4, 11 PA5, 12 PA6, 13 PA7, 14 PB0, 15 PB1, 16 PB2, 17 VDDIO2, 18 PA8, 19 PA9, 20 PA10, 21 PA11, 22 PA12, 23 PA13, 24 PA14, 25 PA15, 26 PB3, 27 PB4, 28 PB5, 29 PB6, 30 PB7, 31 PF11, 32 PB8, 33 VSS

## STM32F042K6Tx
designator *  value STM32F042K6Tx  Reference: U
ki_keywords: Arm Cortex-M0 STM32F0 STM32F0x2; ki_description: STMicroelectronics Arm Cortex-M0 MCU, 32KB flash, 6KB RAM, 48 MHz, 2.0-3.6V, 26 GPIO, LQFP32; ki_fp_filters: LQFP*7x7mm*P0.8mm*; Footprint: Package_QFP:LQFP-32_7x7mm_P0.8mm; Datasheet: https://www.st.com/resource/en/datasheet/stm32f042k6.pdf
pins: 1 VDD, 2 PF0, 3 PF1, 4 NRST, 5 VDDA, 6 PA0, 7 PA1, 8 PA2, 9 PA3, 10 PA4, 11 PA5, 12 PA6, 13 PA7, 14 PB0, 15 PB1, 16 VSS, 17 VDDIO2, 18 PA8, 19 PA9, 20 PA10, 21 PA11, 22 PA12, 23 PA13, 24 PA14, 25 PA15, 26 PB3, 27 PB4, 28 PB5, 29 PB6, 30 PB7, 31 PB8, 32 VSSA

## STM32F042K6Ux
designator *  value STM32F042K6Ux  Reference: U
ki_keywords: Arm Cortex-M0 STM32F0 STM32F0x2; ki_description: STMicroelectronics Arm Cortex-M0 MCU, 32KB flash, 6KB RAM, 48 MHz, 2.0-3.6V, 28 GPIO, UFQFPN32; ki_fp_filters: QFN*1EP*5x5mm*P0.5mm*; Footprint: Package_DFN_QFN:QFN-32-1EP_5x5mm_P0.5mm_EP3.45x3.45mm; Datasheet: https://www.st.com/resource/en/datasheet/stm32f042k6.pdf
pins: 1 VDD, 2 PF0, 3 PF1, 4 NRST, 5 VDDA, 6 PA0, 7 PA1, 8 PA2, 9 PA3, 10 PA4, 11 PA5, 12 PA6, 13 PA7, 14 PB0, 15 PB1, 16 PB2, 17 VDDIO2, 18 PA8, 19 PA9, 20 PA10, 21 PA11, 22 PA12, 23 PA13, 24 PA14, 25 PA15, 26 PB3, 27 PB4, 28 PB5, 29 PB6, 30 PB7, 31 PF11, 32 PB8, 33 VSS

## STM32F042K_4-6_Tx
designator *  value STM32F042K_4-6_Tx  Reference: U
ki_keywords: Arm Cortex-M0 STM32F0 STM32F0x2; ki_description: STMicroelectronics Arm Cortex-M0 MCU, 16-32KB flash, 6KB RAM, 48 MHz, 2.0-3.6V, 26 GPIO, LQFP32; ki_fp_filters: LQFP*7x7mm*P0.8mm*; Footprint: Package_QFP:LQFP-32_7x7mm_P0.8mm; Datasheet: https://www.st.com/resource/en/datasheet/stm32f042k4.pdf
pins: 1 VDD, 2 PF0, 3 PF1, 4 NRST, 5 VDDA, 6 PA0, 7 PA1, 8 PA2, 9 PA3, 10 PA4, 11 PA5, 12 PA6, 13 PA7, 14 PB0, 15 PB1, 16 VSS, 17 VDDIO2, 18 PA8, 19 PA9, 20 PA10, 21 PA11, 22 PA12, 23 PA13, 24 PA14, 25 PA15, 26 PB3, 27 PB4, 28 PB5, 29 PB6, 30 PB7, 31 PB8, 32 VSSA

## STM32F042K_4-6_Ux
designator *  value STM32F042K_4-6_Ux  Reference: U
ki_keywords: Arm Cortex-M0 STM32F0 STM32F0x2; ki_description: STMicroelectronics Arm Cortex-M0 MCU, 16-32KB flash, 6KB RAM, 48 MHz, 2.0-3.6V, 28 GPIO, UFQFPN32; ki_fp_filters: QFN*1EP*5x5mm*P0.5mm*; Footprint: Package_DFN_QFN:QFN-32-1EP_5x5mm_P0.5mm_EP3.45x3.45mm; Datasheet: https://www.st.com/resource/en/datasheet/stm32f042k4.pdf
pins: 1 VDD, 2 PF0, 3 PF1, 4 NRST, 5 VDDA, 6 PA0, 7 PA1, 8 PA2, 9 PA3, 10 PA4, 11 PA5, 12 PA6, 13 PA7, 14 PB0, 15 PB1, 16 PB2, 17 VDDIO2, 18 PA8, 19 PA9, 20 PA10, 21 PA11, 22 PA12, 23 PA13, 24 PA14, 25 PA15, 26 PB3, 27 PB4, 28 PB5, 29 PB6, 30 PB7, 31 PF11, 32 PB8, 33 VSS

## STM32F042T6Yx
designator *  value STM32F042T6Yx  Reference: U
ki_keywords: Arm Cortex-M0 STM32F0 STM32F0x2; ki_description: STMicroelectronics Arm Cortex-M0 MCU, 32KB flash, 6KB RAM, 48 MHz, 2.0-3.6V, 30 GPIO, WLCSP36; ki_fp_filters: ST*WLCSP*Die445*; Footprint: Package_CSP:ST_WLCSP-36_Die445; Datasheet: https://www.st.com/resource/en/datasheet/stm32f042t6.pdf
pins: A1 PA12, A2 PA15, A3 PB4, A4 PB7, A5 VDD, A6 PC13, B1 PA13, B2 PA14, B3 PB3, B4 PB8, B5 PF0, B6 PC14, C1 PA10, C2 PA11, C3 PA4, C4 PB6, C5 PF1, C6 PC15, D1 PA9, D2 PB2, D3 PA5, D4 PA1, D5 NRST, D6 VSSA, E1 VDDIO2, E2 PA8, E3 PA6, E4 PA2, E5 VDDA, E6 PB5, F1 VSS, F2 PB1, F3 PB0, F4 PA7, F5 PA3, F6 PA0

## STM32F048C6Ux
designator *  value STM32F048C6Ux  Reference: U
ki_keywords: Arm Cortex-M0 STM32F0 STM32F0x8; ki_description: STMicroelectronics Arm Cortex-M0 MCU, 32KB flash, 6KB RAM, 48 MHz, 1.65-1.95V, 37 GPIO, UFQFPN48; ki_fp_filters: QFN*1EP*7x7mm*P0.5mm*; Footprint: Package_DFN_QFN:QFN-48-1EP_7x7mm_P0.5mm_EP5.6x5.6mm; Datasheet: https://www.st.com/resource/en/datasheet/stm32f048c6.pdf
pins: 1 VBAT, 2 PC13, 3 PC14, 4 PC15, 5 PF0, 6 PF1, 7 NRST, 8 VSSA, 9 VDDA, 10 PA0, 11 PA1, 12 PA2, 13 PA3, 14 PA4, 15 PA5, 16 PA6, 17 PA7, 18 PB0, 19 PB1, 20 NPOR, 21 PB10, 22 PB11, 23 VSS, 24 VDD, 25 PB12, 26 PB13, 27 PB14, 28 PB15, 29 PA8, 30 PA9, 31 PA10, 32 PA11, 33 PA12, 34 PA13, 35 VSS hidden, 36 VDDIO2, 37 PA14, 38 PA15, 39 PB3, 40 PB4, 41 PB5, 42 PB6, 43 PB7, 44 PF11, 45 PB8, 46 PB9, 47 VSS hidden, 48 VDD, 49 VSS hidden

## STM32F048G6Ux
designator *  value STM32F048G6Ux  Reference: U
ki_keywords: Arm Cortex-M0 STM32F0 STM32F0x8; ki_description: STMicroelectronics Arm Cortex-M0 MCU, 32KB flash, 6KB RAM, 48 MHz, 1.65-1.95V, 22 GPIO, UFQFPN28; ki_fp_filters: QFN*4x4mm*P0.5mm*; Footprint: Package_DFN_QFN:QFN-28_4x4mm_P0.5mm; Datasheet: https://www.st.com/resource/en/datasheet/stm32f048g6.pdf
pins: 1 PB8, 2 PF0, 3 PF1, 4 NRST, 5 VDDA, 6 PA0, 7 PA1, 8 PA2, 9 PA3, 10 PA4, 11 PA5, 12 PA6, 13 PA7, 14 PB0, 15 NPOR, 16 VSS, 17 VDD, 18 VDDIO2, 19 PA9/PA11, 20 PA10/PA12, 21 PA13, 22 PA14, 23 PA15, 24 PB3, 25 PB4, 26 PB5, 27 PB6, 28 PB7

## STM32F048T6Yx
designator *  value STM32F048T6Yx  Reference: U
ki_keywords: Arm Cortex-M0 STM32F0 STM32F0x8; ki_description: STMicroelectronics Arm Cortex-M0 MCU, 32KB flash, 6KB RAM, 48 MHz, 1.65-1.95V, 29 GPIO, WLCSP36; ki_fp_filters: ST*WLCSP*Die445*; Footprint: Package_CSP:ST_WLCSP-36_Die445; Datasheet: https://www.st.com/resource/en/datasheet/stm32f048t6.pdf
pins: A1 PA12, A2 PA15, A3 PB4, A4 PB7, A5 VDD, A6 PC13, B1 PA13, B2 PA14, B3 PB3, B4 PB8, B5 PF0, B6 PC14, C1 PA10, C2 PA11, C3 PA4, C4 PB6, C5 PF1, C6 PC15, D1 PA9, D2 NPOR, D3 PA5, D4 PA1, D5 NRST, D6 VSS, E1 VDDIO2, E2 PA8, E3 PA6, E4 PA2, E5 VDDA, E6 PB5, F1 VSS hidden, F2 PB1, F3 PB0, F4 PA7, F5 PA3, F6 PA0

## STM32F051C4Tx
designator *  value STM32F051C4Tx  Reference: U
ki_keywords: Arm Cortex-M0 STM32F0 STM32F0x1; ki_description: STMicroelectronics Arm Cortex-M0 MCU, 16KB flash, 8KB RAM, 48 MHz, 2.0-3.6V, 39 GPIO, LQFP48; ki_fp_filters: LQFP*7x7mm*P0.5mm*; Footprint: Package_QFP:LQFP-48_7x7mm_P0.5mm; Datasheet: https://www.st.com/resource/en/datasheet/stm32f051c4.pdf
pins: 1 VBAT, 2 PC13, 3 PC14, 4 PC15, 5 PF0, 6 PF1, 7 NRST, 8 VSSA, 9 VDDA, 10 PA0, 11 PA1, 12 PA2, 13 PA3, 14 PA4, 15 PA5, 16 PA6, 17 PA7, 18 PB0, 19 PB1, 20 PB2, 21 PB10, 22 PB11, 23 VSS, 24 VDD, 25 PB12, 26 PB13, 27 PB14, 28 PB15, 29 PA8, 30 PA9, 31 PA10, 32 PA11, 33 PA12, 34 PA13, 35 PF6, 36 PF7, 37 PA14, 38 PA15, 39 PB3, 40 PB4, 41 PB5, 42 PB6, 43 PB7, 44 BOOT0, 45 PB8, 46 PB9, 47 VSS hidden, 48 VDD

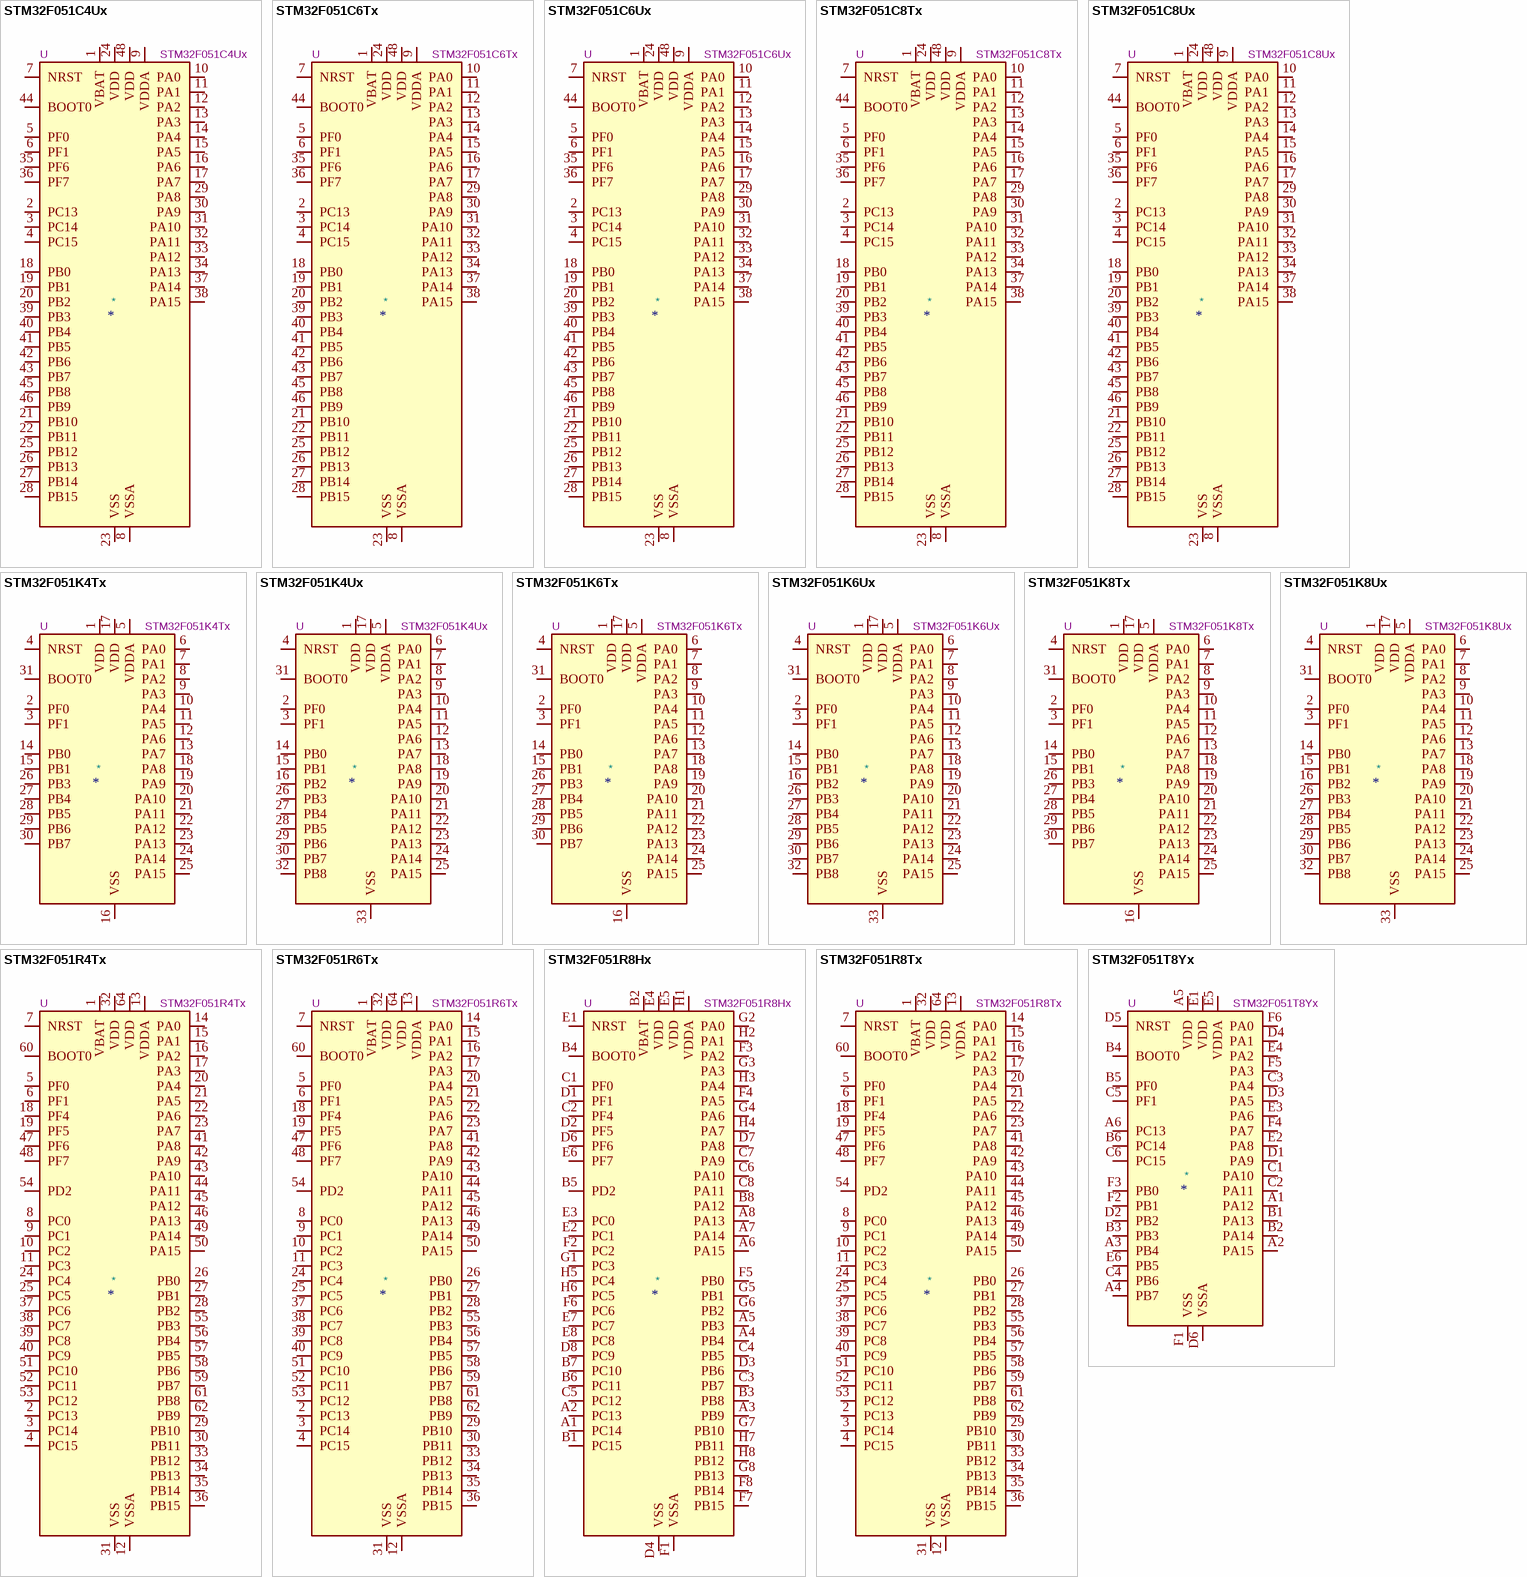
[diagram p3: symbols STM32F051C4Ux to STM32F051T8Yx]

## STM32F051C4Ux
designator *  value STM32F051C4Ux  Reference: U
ki_keywords: Arm Cortex-M0 STM32F0 STM32F0x1; ki_description: STMicroelectronics Arm Cortex-M0 MCU, 16KB flash, 8KB RAM, 48 MHz, 2.0-3.6V, 39 GPIO, UFQFPN48; ki_fp_filters: QFN*1EP*7x7mm*P0.5mm*; Footprint: Package_DFN_QFN:QFN-48-1EP_7x7mm_P0.5mm_EP5.6x5.6mm; Datasheet: https://www.st.com/resource/en/datasheet/stm32f051c4.pdf
pins: 1 VBAT, 2 PC13, 3 PC14, 4 PC15, 5 PF0, 6 PF1, 7 NRST, 8 VSSA, 9 VDDA, 10 PA0, 11 PA1, 12 PA2, 13 PA3, 14 PA4, 15 PA5, 16 PA6, 17 PA7, 18 PB0, 19 PB1, 20 PB2, 21 PB10, 22 PB11, 23 VSS, 24 VDD, 25 PB12, 26 PB13, 27 PB14, 28 PB15, 29 PA8, 30 PA9, 31 PA10, 32 PA11, 33 PA12, 34 PA13, 35 PF6, 36 PF7, 37 PA14, 38 PA15, 39 PB3, 40 PB4, 41 PB5, 42 PB6, 43 PB7, 44 BOOT0, 45 PB8, 46 PB9, 47 VSS hidden, 48 VDD, 49 VSS hidden

## STM32F051C6Tx
designator *  value STM32F051C6Tx  Reference: U
ki_keywords: Arm Cortex-M0 STM32F0 STM32F0x1; ki_description: STMicroelectronics Arm Cortex-M0 MCU, 32KB flash, 8KB RAM, 48 MHz, 2.0-3.6V, 39 GPIO, LQFP48; ki_fp_filters: LQFP*7x7mm*P0.5mm*; Footprint: Package_QFP:LQFP-48_7x7mm_P0.5mm; Datasheet: https://www.st.com/resource/en/datasheet/stm32f051c6.pdf
pins: 1 VBAT, 2 PC13, 3 PC14, 4 PC15, 5 PF0, 6 PF1, 7 NRST, 8 VSSA, 9 VDDA, 10 PA0, 11 PA1, 12 PA2, 13 PA3, 14 PA4, 15 PA5, 16 PA6, 17 PA7, 18 PB0, 19 PB1, 20 PB2, 21 PB10, 22 PB11, 23 VSS, 24 VDD, 25 PB12, 26 PB13, 27 PB14, 28 PB15, 29 PA8, 30 PA9, 31 PA10, 32 PA11, 33 PA12, 34 PA13, 35 PF6, 36 PF7, 37 PA14, 38 PA15, 39 PB3, 40 PB4, 41 PB5, 42 PB6, 43 PB7, 44 BOOT0, 45 PB8, 46 PB9, 47 VSS hidden, 48 VDD

## STM32F051C6Ux
designator *  value STM32F051C6Ux  Reference: U
ki_keywords: Arm Cortex-M0 STM32F0 STM32F0x1; ki_description: STMicroelectronics Arm Cortex-M0 MCU, 32KB flash, 8KB RAM, 48 MHz, 2.0-3.6V, 39 GPIO, UFQFPN48; ki_fp_filters: QFN*1EP*7x7mm*P0.5mm*; Footprint: Package_DFN_QFN:QFN-48-1EP_7x7mm_P0.5mm_EP5.6x5.6mm; Datasheet: https://www.st.com/resource/en/datasheet/stm32f051c6.pdf
pins: 1 VBAT, 2 PC13, 3 PC14, 4 PC15, 5 PF0, 6 PF1, 7 NRST, 8 VSSA, 9 VDDA, 10 PA0, 11 PA1, 12 PA2, 13 PA3, 14 PA4, 15 PA5, 16 PA6, 17 PA7, 18 PB0, 19 PB1, 20 PB2, 21 PB10, 22 PB11, 23 VSS, 24 VDD, 25 PB12, 26 PB13, 27 PB14, 28 PB15, 29 PA8, 30 PA9, 31 PA10, 32 PA11, 33 PA12, 34 PA13, 35 PF6, 36 PF7, 37 PA14, 38 PA15, 39 PB3, 40 PB4, 41 PB5, 42 PB6, 43 PB7, 44 BOOT0, 45 PB8, 46 PB9, 47 VSS hidden, 48 VDD, 49 VSS hidden

## STM32F051C8Tx
designator *  value STM32F051C8Tx  Reference: U
ki_keywords: Arm Cortex-M0 STM32F0 STM32F0x1; ki_description: STMicroelectronics Arm Cortex-M0 MCU, 64KB flash, 8KB RAM, 48 MHz, 2.0-3.6V, 39 GPIO, LQFP48; ki_fp_filters: LQFP*7x7mm*P0.5mm*; Footprint: Package_QFP:LQFP-48_7x7mm_P0.5mm; Datasheet: https://www.st.com/resource/en/datasheet/stm32f051c8.pdf
pins: 1 VBAT, 2 PC13, 3 PC14, 4 PC15, 5 PF0, 6 PF1, 7 NRST, 8 VSSA, 9 VDDA, 10 PA0, 11 PA1, 12 PA2, 13 PA3, 14 PA4, 15 PA5, 16 PA6, 17 PA7, 18 PB0, 19 PB1, 20 PB2, 21 PB10, 22 PB11, 23 VSS, 24 VDD, 25 PB12, 26 PB13, 27 PB14, 28 PB15, 29 PA8, 30 PA9, 31 PA10, 32 PA11, 33 PA12, 34 PA13, 35 PF6, 36 PF7, 37 PA14, 38 PA15, 39 PB3, 40 PB4, 41 PB5, 42 PB6, 43 PB7, 44 BOOT0, 45 PB8, 46 PB9, 47 VSS hidden, 48 VDD

## STM32F051C8Ux
designator *  value STM32F051C8Ux  Reference: U
ki_keywords: Arm Cortex-M0 STM32F0 STM32F0x1; ki_description: STMicroelectronics Arm Cortex-M0 MCU, 64KB flash, 8KB RAM, 48 MHz, 2.0-3.6V, 39 GPIO, UFQFPN48; ki_fp_filters: QFN*1EP*7x7mm*P0.5mm*; Footprint: Package_DFN_QFN:QFN-48-1EP_7x7mm_P0.5mm_EP5.6x5.6mm; Datasheet: https://www.st.com/resource/en/datasheet/stm32f051c8.pdf
pins: 1 VBAT, 2 PC13, 3 PC14, 4 PC15, 5 PF0, 6 PF1, 7 NRST, 8 VSSA, 9 VDDA, 10 PA0, 11 PA1, 12 PA2, 13 PA3, 14 PA4, 15 PA5, 16 PA6, 17 PA7, 18 PB0, 19 PB1, 20 PB2, 21 PB10, 22 PB11, 23 VSS, 24 VDD, 25 PB12, 26 PB13, 27 PB14, 28 PB15, 29 PA8, 30 PA9, 31 PA10, 32 PA11, 33 PA12, 34 PA13, 35 PF6, 36 PF7, 37 PA14, 38 PA15, 39 PB3, 40 PB4, 41 PB5, 42 PB6, 43 PB7, 44 BOOT0, 45 PB8, 46 PB9, 47 VSS hidden, 48 VDD, 49 VSS hidden

## STM32F051K4Tx
designator *  value STM32F051K4Tx  Reference: U
ki_keywords: Arm Cortex-M0 STM32F0 STM32F0x1; ki_description: STMicroelectronics Arm Cortex-M0 MCU, 16KB flash, 8KB RAM, 48 MHz, 2.0-3.6V, 25 GPIO, LQFP32; ki_fp_filters: LQFP*7x7mm*P0.8mm*; Footprint: Package_QFP:LQFP-32_7x7mm_P0.8mm; Datasheet: https://www.st.com/resource/en/datasheet/stm32f051k4.pdf
pins: 1 VDD, 2 PF0, 3 PF1, 4 NRST, 5 VDDA, 6 PA0, 7 PA1, 8 PA2, 9 PA3, 10 PA4, 11 PA5, 12 PA6, 13 PA7, 14 PB0, 15 PB1, 16 VSS, 17 VDD, 18 PA8, 19 PA9, 20 PA10, 21 PA11, 22 PA12, 23 PA13, 24 PA14, 25 PA15, 26 PB3, 27 PB4, 28 PB5, 29 PB6, 30 PB7, 31 BOOT0, 32 VSS hidden

## STM32F051K4Ux
designator *  value STM32F051K4Ux  Reference: U
ki_keywords: Arm Cortex-M0 STM32F0 STM32F0x1; ki_description: STMicroelectronics Arm Cortex-M0 MCU, 16KB flash, 8KB RAM, 48 MHz, 2.0-3.6V, 27 GPIO, UFQFPN32; ki_fp_filters: QFN*1EP*5x5mm*P0.5mm*; Footprint: Package_DFN_QFN:QFN-32-1EP_5x5mm_P0.5mm_EP3.45x3.45mm; Datasheet: https://www.st.com/resource/en/datasheet/stm32f051k4.pdf
pins: 1 VDD, 2 PF0, 3 PF1, 4 NRST, 5 VDDA, 6 PA0, 7 PA1, 8 PA2, 9 PA3, 10 PA4, 11 PA5, 12 PA6, 13 PA7, 14 PB0, 15 PB1, 16 PB2, 17 VDD, 18 PA8, 19 PA9, 20 PA10, 21 PA11, 22 PA12, 23 PA13, 24 PA14, 25 PA15, 26 PB3, 27 PB4, 28 PB5, 29 PB6, 30 PB7, 31 BOOT0, 32 PB8, 33 VSS

## STM32F051K6Tx
designator *  value STM32F051K6Tx  Reference: U
ki_keywords: Arm Cortex-M0 STM32F0 STM32F0x1; ki_description: STMicroelectronics Arm Cortex-M0 MCU, 32KB flash, 8KB RAM, 48 MHz, 2.0-3.6V, 25 GPIO, LQFP32; ki_fp_filters: LQFP*7x7mm*P0.8mm*; Footprint: Package_QFP:LQFP-32_7x7mm_P0.8mm; Datasheet: https://www.st.com/resource/en/datasheet/stm32f051k6.pdf
pins: 1 VDD, 2 PF0, 3 PF1, 4 NRST, 5 VDDA, 6 PA0, 7 PA1, 8 PA2, 9 PA3, 10 PA4, 11 PA5, 12 PA6, 13 PA7, 14 PB0, 15 PB1, 16 VSS, 17 VDD, 18 PA8, 19 PA9, 20 PA10, 21 PA11, 22 PA12, 23 PA13, 24 PA14, 25 PA15, 26 PB3, 27 PB4, 28 PB5, 29 PB6, 30 PB7, 31 BOOT0, 32 VSS hidden

## STM32F051K6Ux
designator *  value STM32F051K6Ux  Reference: U
ki_keywords: Arm Cortex-M0 STM32F0 STM32F0x1; ki_description: STMicroelectronics Arm Cortex-M0 MCU, 32KB flash, 8KB RAM, 48 MHz, 2.0-3.6V, 27 GPIO, UFQFPN32; ki_fp_filters: QFN*1EP*5x5mm*P0.5mm*; Footprint: Package_DFN_QFN:QFN-32-1EP_5x5mm_P0.5mm_EP3.45x3.45mm; Datasheet: https://www.st.com/resource/en/datasheet/stm32f051k6.pdf
pins: 1 VDD, 2 PF0, 3 PF1, 4 NRST, 5 VDDA, 6 PA0, 7 PA1, 8 PA2, 9 PA3, 10 PA4, 11 PA5, 12 PA6, 13 PA7, 14 PB0, 15 PB1, 16 PB2, 17 VDD, 18 PA8, 19 PA9, 20 PA10, 21 PA11, 22 PA12, 23 PA13, 24 PA14, 25 PA15, 26 PB3, 27 PB4, 28 PB5, 29 PB6, 30 PB7, 31 BOOT0, 32 PB8, 33 VSS

## STM32F051K8Tx
designator *  value STM32F051K8Tx  Reference: U
ki_keywords: Arm Cortex-M0 STM32F0 STM32F0x1; ki_description: STMicroelectronics Arm Cortex-M0 MCU, 64KB flash, 8KB RAM, 48 MHz, 2.0-3.6V, 25 GPIO, LQFP32; ki_fp_filters: LQFP*7x7mm*P0.8mm*; Footprint: Package_QFP:LQFP-32_7x7mm_P0.8mm; Datasheet: https://www.st.com/resource/en/datasheet/stm32f051k8.pdf
pins: 1 VDD, 2 PF0, 3 PF1, 4 NRST, 5 VDDA, 6 PA0, 7 PA1, 8 PA2, 9 PA3, 10 PA4, 11 PA5, 12 PA6, 13 PA7, 14 PB0, 15 PB1, 16 VSS, 17 VDD, 18 PA8, 19 PA9, 20 PA10, 21 PA11, 22 PA12, 23 PA13, 24 PA14, 25 PA15, 26 PB3, 27 PB4, 28 PB5, 29 PB6, 30 PB7, 31 BOOT0, 32 VSS hidden

## STM32F051K8Ux
designator *  value STM32F051K8Ux  Reference: U
ki_keywords: Arm Cortex-M0 STM32F0 STM32F0x1; ki_description: STMicroelectronics Arm Cortex-M0 MCU, 64KB flash, 8KB RAM, 48 MHz, 2.0-3.6V, 27 GPIO, UFQFPN32; ki_fp_filters: QFN*1EP*5x5mm*P0.5mm*; Footprint: Package_DFN_QFN:QFN-32-1EP_5x5mm_P0.5mm_EP3.45x3.45mm; Datasheet: https://www.st.com/resource/en/datasheet/stm32f051k8.pdf
pins: 1 VDD, 2 PF0, 3 PF1, 4 NRST, 5 VDDA, 6 PA0, 7 PA1, 8 PA2, 9 PA3, 10 PA4, 11 PA5, 12 PA6, 13 PA7, 14 PB0, 15 PB1, 16 PB2, 17 VDD, 18 PA8, 19 PA9, 20 PA10, 21 PA11, 22 PA12, 23 PA13, 24 PA14, 25 PA15, 26 PB3, 27 PB4, 28 PB5, 29 PB6, 30 PB7, 31 BOOT0, 32 PB8, 33 VSS

## STM32F051R4Tx
designator *  value STM32F051R4Tx  Reference: U
ki_keywords: Arm Cortex-M0 STM32F0 STM32F0x1; ki_description: STMicroelectronics Arm Cortex-M0 MCU, 16KB flash, 8KB RAM, 48 MHz, 2.0-3.6V, 55 GPIO, LQFP64; ki_fp_filters: LQFP*10x10mm*P0.5mm*; Footprint: Package_QFP:LQFP-64_10x10mm_P0.5mm; Datasheet: https://www.st.com/resource/en/datasheet/stm32f051r4.pdf
pins: 1 VBAT, 2 PC13, 3 PC14, 4 PC15, 5 PF0, 6 PF1, 7 NRST, 8 PC0, 9 PC1, 10 PC2, 11 PC3, 12 VSSA, 13 VDDA, 14 PA0, 15 PA1, 16 PA2, 17 PA3, 18 PF4, 19 PF5, 20 PA4, 21 PA5, 22 PA6, 23 PA7, 24 PC4, 25 PC5, 26 PB0, 27 PB1, 28 PB2, 29 PB10, 30 PB11, 31 VSS, 32 VDD, 33 PB12, 34 PB13, 35 PB14, 36 PB15, 37 PC6, 38 PC7, 39 PC8, 40 PC9, 41 PA8, 42 PA9, 43 PA10, 44 PA11, 45 PA12, 46 PA13, 47 PF6, 48 PF7, 49 PA14, 50 PA15, 51 PC10, 52 PC11, 53 PC12, 54 PD2, 55 PB3, 56 PB4, 57 PB5, 58 PB6, 59 PB7, 60 BOOT0, 61 PB8, 62 PB9, 63 VSS hidden, 64 VDD

## STM32F051R6Tx
designator *  value STM32F051R6Tx  Reference: U
ki_keywords: Arm Cortex-M0 STM32F0 STM32F0x1; ki_description: STMicroelectronics Arm Cortex-M0 MCU, 32KB flash, 8KB RAM, 48 MHz, 2.0-3.6V, 55 GPIO, LQFP64; ki_fp_filters: LQFP*10x10mm*P0.5mm*; Footprint: Package_QFP:LQFP-64_10x10mm_P0.5mm; Datasheet: https://www.st.com/resource/en/datasheet/stm32f051r6.pdf
pins: 1 VBAT, 2 PC13, 3 PC14, 4 PC15, 5 PF0, 6 PF1, 7 NRST, 8 PC0, 9 PC1, 10 PC2, 11 PC3, 12 VSSA, 13 VDDA, 14 PA0, 15 PA1, 16 PA2, 17 PA3, 18 PF4, 19 PF5, 20 PA4, 21 PA5, 22 PA6, 23 PA7, 24 PC4, 25 PC5, 26 PB0, 27 PB1, 28 PB2, 29 PB10, 30 PB11, 31 VSS, 32 VDD, 33 PB12, 34 PB13, 35 PB14, 36 PB15, 37 PC6, 38 PC7, 39 PC8, 40 PC9, 41 PA8, 42 PA9, 43 PA10, 44 PA11, 45 PA12, 46 PA13, 47 PF6, 48 PF7, 49 PA14, 50 PA15, 51 PC10, 52 PC11, 53 PC12, 54 PD2, 55 PB3, 56 PB4, 57 PB5, 58 PB6, 59 PB7, 60 BOOT0, 61 PB8, 62 PB9, 63 VSS hidden, 64 VDD

## STM32F051R8Hx
designator *  value STM32F051R8Hx  Reference: U
ki_keywords: Arm Cortex-M0 STM32F0 STM32F0x1; ki_description: STMicroelectronics Arm Cortex-M0 MCU, 64KB flash, 8KB RAM, 48 MHz, 2.0-3.6V, 55 GPIO, UFBGA64; ki_fp_filters: *UFBGA*5x5mm*Layout8x8*P0.5mm*; Footprint: Package_BGA:UFBGA-64_5x5mm_Layout8x8_P0.5mm; Datasheet: https://www.st.com/resource/en/datasheet/stm32f051r8.pdf
pins: A1 PC14, A2 PC13, A3 PB9, A4 PB4, A5 PB3, A6 PA15, A7 PA14, A8 PA13, B1 PC15, B2 VBAT, B3 PB8, B4 BOOT0, B5 PD2, B6 PC11, B7 PC10, B8 PA12, C1 PF0, C2 PF4, C3 PB7, C4 PB5, C5 PC12, C6 PA10, C7 PA9, C8 PA11, D1 PF1, D2 PF5, D3 PB6, D4 VSS, D5 VSS hidden, D6 PF6, D7 PA8, D8 PC9, E1 NRST, E2 PC1, E3 PC0, E4 VDD, E5 VDD, E6 PF7, E7 PC7, E8 PC8, F1 VSSA, F2 PC2, F3 PA2, F4 PA5, F5 PB0, F6 PC6, F7 PB15, F8 PB14, G1 PC3, G2 PA0, G3 PA3, G4 PA6, G5 PB1, G6 PB2, G7 PB10, G8 PB13, H1 VDDA, H2 PA1, H3 PA4, H4 PA7, H5 PC4, H6 PC5, H7 PB11, H8 PB12

## STM32F051R8Tx
designator *  value STM32F051R8Tx  Reference: U
ki_keywords: Arm Cortex-M0 STM32F0 STM32F0x1; ki_description: STMicroelectronics Arm Cortex-M0 MCU, 64KB flash, 8KB RAM, 48 MHz, 2.0-3.6V, 55 GPIO, LQFP64; ki_fp_filters: LQFP*10x10mm*P0.5mm*; Footprint: Package_QFP:LQFP-64_10x10mm_P0.5mm; Datasheet: https://www.st.com/resource/en/datasheet/stm32f051r8.pdf
pins: 1 VBAT, 2 PC13, 3 PC14, 4 PC15, 5 PF0, 6 PF1, 7 NRST, 8 PC0, 9 PC1, 10 PC2, 11 PC3, 12 VSSA, 13 VDDA, 14 PA0, 15 PA1, 16 PA2, 17 PA3, 18 PF4, 19 PF5, 20 PA4, 21 PA5, 22 PA6, 23 PA7, 24 PC4, 25 PC5, 26 PB0, 27 PB1, 28 PB2, 29 PB10, 30 PB11, 31 VSS, 32 VDD, 33 PB12, 34 PB13, 35 PB14, 36 PB15, 37 PC6, 38 PC7, 39 PC8, 40 PC9, 41 PA8, 42 PA9, 43 PA10, 44 PA11, 45 PA12, 46 PA13, 47 PF6, 48 PF7, 49 PA14, 50 PA15, 51 PC10, 52 PC11, 53 PC12, 54 PD2, 55 PB3, 56 PB4, 57 PB5, 58 PB6, 59 PB7, 60 BOOT0, 61 PB8, 62 PB9, 63 VSS hidden, 64 VDD

## STM32F051T8Yx
designator *  value STM32F051T8Yx  Reference: U
ki_keywords: Arm Cortex-M0 STM32F0 STM32F0x1; ki_description: STMicroelectronics Arm Cortex-M0 MCU, 64KB flash, 8KB RAM, 48 MHz, 2.0-3.6V, 29 GPIO, WLCSP36; ki_fp_filters: ST*WLCSP*Die440*; Footprint: Package_CSP:ST_WLCSP-36_Die440; Datasheet: https://www.st.com/resource/en/datasheet/stm32f051t8.pdf
pins: A1 PA12, A2 PA15, A3 PB4, A4 PB7, A5 VDD, A6 PC13, B1 PA13, B2 PA14, B3 PB3, B4 BOOT0, B5 PF0, B6 PC14, C1 PA10, C2 PA11, C3 PA4, C4 PB6, C5 PF1, C6 PC15, D1 PA9, D2 PB2, D3 PA5, D4 PA1, D5 NRST, D6 VSSA, E1 VDD, E2 PA8, E3 PA6, E4 PA2, E5 VDDA, E6 PB5, F1 VSS, F2 PB1, F3 PB0, F4 PA7, F5 PA3, F6 PA0

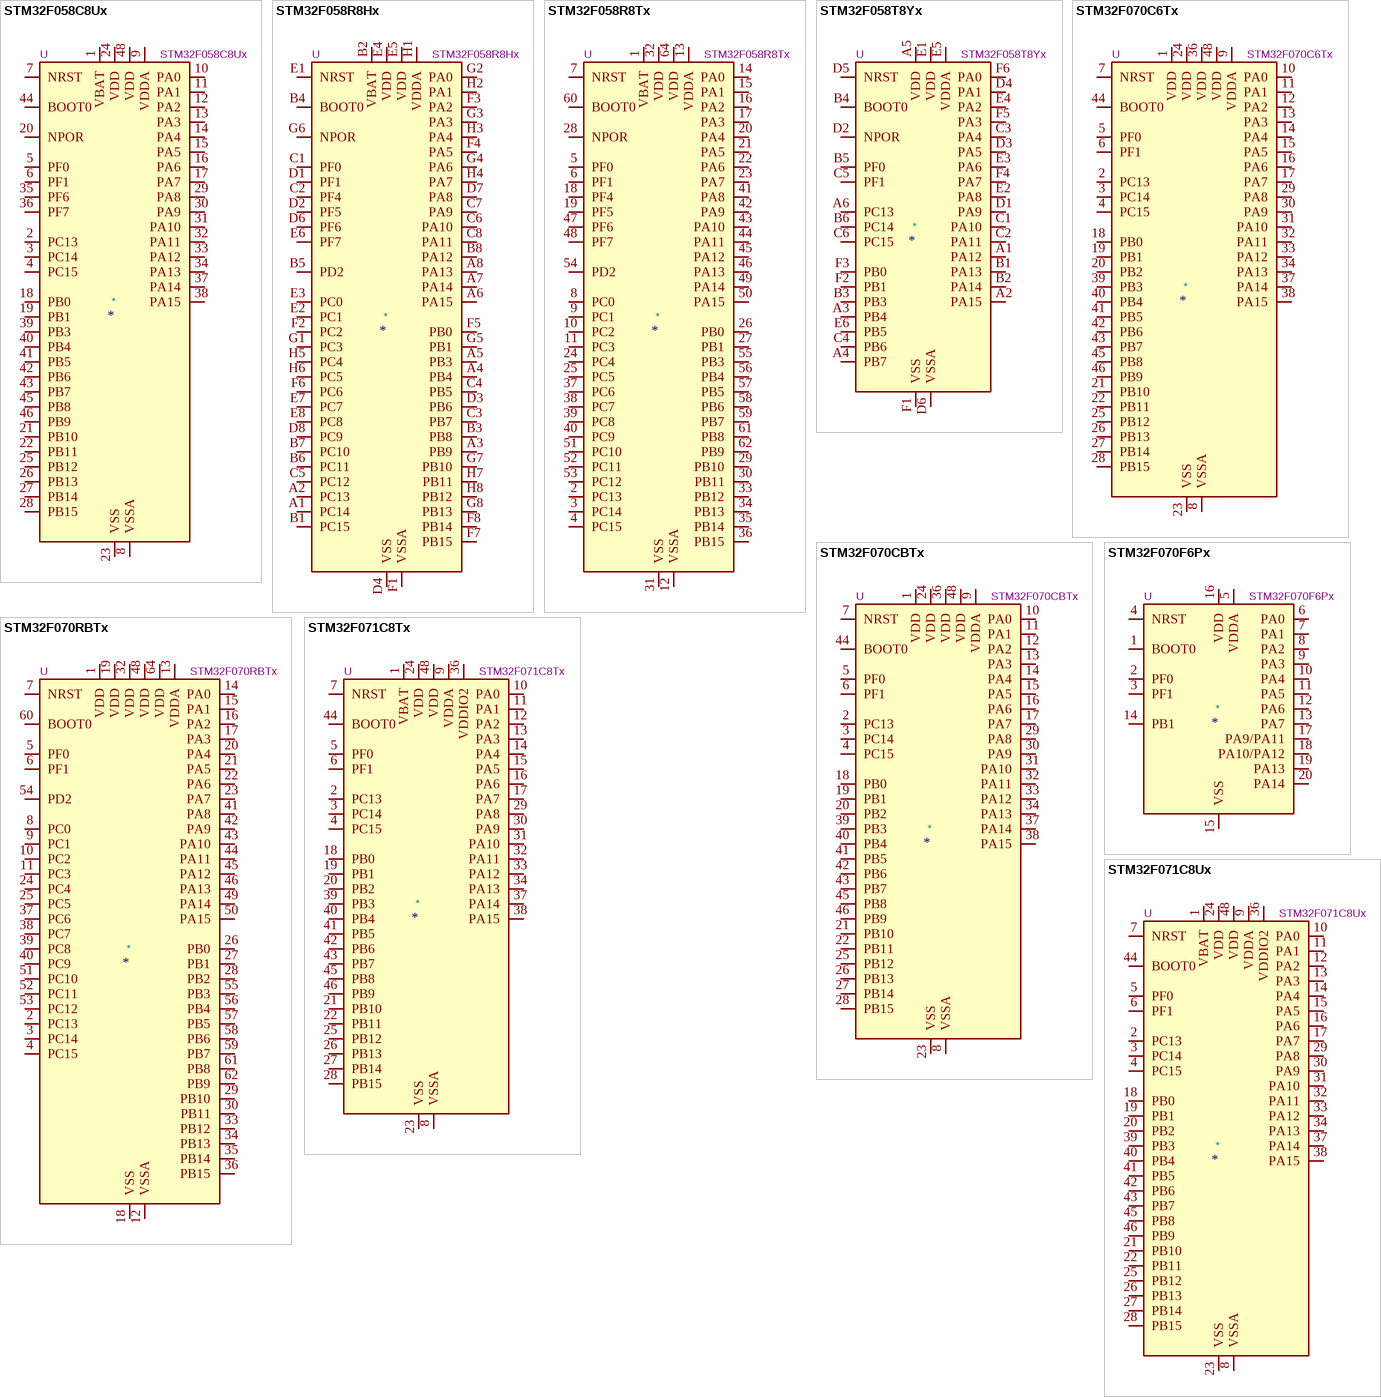
[diagram p4: symbols STM32F058C8Ux to STM32F071C8Ux]

## STM32F058C8Ux
designator *  value STM32F058C8Ux  Reference: U
ki_keywords: Arm Cortex-M0 STM32F0 STM32F0x8; ki_description: STMicroelectronics Arm Cortex-M0 MCU, 64KB flash, 8KB RAM, 48 MHz, 1.65-1.95V, 38 GPIO, UFQFPN48; ki_fp_filters: QFN*1EP*7x7mm*P0.5mm*; Footprint: Package_DFN_QFN:QFN-48-1EP_7x7mm_P0.5mm_EP5.6x5.6mm; Datasheet: https://www.st.com/resource/en/datasheet/stm32f058c8.pdf
pins: 1 VBAT, 2 PC13, 3 PC14, 4 PC15, 5 PF0, 6 PF1, 7 NRST, 8 VSSA, 9 VDDA, 10 PA0, 11 PA1, 12 PA2, 13 PA3, 14 PA4, 15 PA5, 16 PA6, 17 PA7, 18 PB0, 19 PB1, 20 NPOR, 21 PB10, 22 PB11, 23 VSS, 24 VDD, 25 PB12, 26 PB13, 27 PB14, 28 PB15, 29 PA8, 30 PA9, 31 PA10, 32 PA11, 33 PA12, 34 PA13, 35 PF6, 36 PF7, 37 PA14, 38 PA15, 39 PB3, 40 PB4, 41 PB5, 42 PB6, 43 PB7, 44 BOOT0, 45 PB8, 46 PB9, 47 VSS hidden, 48 VDD, 49 VSS hidden

## STM32F058R8Hx
designator *  value STM32F058R8Hx  Reference: U
ki_keywords: Arm Cortex-M0 STM32F0 STM32F0x8; ki_description: STMicroelectronics Arm Cortex-M0 MCU, 64KB flash, 8KB RAM, 48 MHz, 1.65-1.95V, 54 GPIO, UFBGA64; ki_fp_filters: *UFBGA*5x5mm*Layout8x8*P0.5mm*; Footprint: Package_BGA:UFBGA-64_5x5mm_Layout8x8_P0.5mm; Datasheet: https://www.st.com/resource/en/datasheet/stm32f058r8.pdf
pins: A1 PC14, A2 PC13, A3 PB9, A4 PB4, A5 PB3, A6 PA15, A7 PA14, A8 PA13, B1 PC15, B2 VBAT, B3 PB8, B4 BOOT0, B5 PD2, B6 PC11, B7 PC10, B8 PA12, C1 PF0, C2 PF4, C3 PB7, C4 PB5, C5 PC12, C6 PA10, C7 PA9, C8 PA11, D1 PF1, D2 PF5, D3 PB6, D4 VSS, D5 VSS hidden, D6 PF6, D7 PA8, D8 PC9, E1 NRST, E2 PC1, E3 PC0, E4 VDD, E5 VDD, E6 PF7, E7 PC7, E8 PC8, F1 VSSA, F2 PC2, F3 PA2, F4 PA5, F5 PB0, F6 PC6, F7 PB15, F8 PB14, G1 PC3, G2 PA0, G3 PA3, G4 PA6, G5 PB1, G6 NPOR, G7 PB10, G8 PB13, H1 VDDA, H2 PA1, H3 PA4, H4 PA7, H5 PC4, H6 PC5, H7 PB11, H8 PB12

## STM32F058R8Tx
designator *  value STM32F058R8Tx  Reference: U
ki_keywords: Arm Cortex-M0 STM32F0 STM32F0x8; ki_description: STMicroelectronics Arm Cortex-M0 MCU, 64KB flash, 8KB RAM, 48 MHz, 1.65-1.95V, 54 GPIO, LQFP64; ki_fp_filters: LQFP*10x10mm*P0.5mm*; Footprint: Package_QFP:LQFP-64_10x10mm_P0.5mm; Datasheet: https://www.st.com/resource/en/datasheet/stm32f058r8.pdf
pins: 1 VBAT, 2 PC13, 3 PC14, 4 PC15, 5 PF0, 6 PF1, 7 NRST, 8 PC0, 9 PC1, 10 PC2, 11 PC3, 12 VSSA, 13 VDDA, 14 PA0, 15 PA1, 16 PA2, 17 PA3, 18 PF4, 19 PF5, 20 PA4, 21 PA5, 22 PA6, 23 PA7, 24 PC4, 25 PC5, 26 PB0, 27 PB1, 28 NPOR, 29 PB10, 30 PB11, 31 VSS, 32 VDD, 33 PB12, 34 PB13, 35 PB14, 36 PB15, 37 PC6, 38 PC7, 39 PC8, 40 PC9, 41 PA8, 42 PA9, 43 PA10, 44 PA11, 45 PA12, 46 PA13, 47 PF6, 48 PF7, 49 PA14, 50 PA15, 51 PC10, 52 PC11, 53 PC12, 54 PD2, 55 PB3, 56 PB4, 57 PB5, 58 PB6, 59 PB7, 60 BOOT0, 61 PB8, 62 PB9, 63 VSS hidden, 64 VDD

## STM32F058T8Yx
designator *  value STM32F058T8Yx  Reference: U
ki_keywords: Arm Cortex-M0 STM32F0 STM32F0x8; ki_description: STMicroelectronics Arm Cortex-M0 MCU, 64KB flash, 8KB RAM, 48 MHz, 1.65-1.95V, 28 GPIO, WLCSP36; ki_fp_filters: ST*WLCSP*Die440*; Footprint: Package_CSP:ST_WLCSP-36_Die440; Datasheet: https://www.st.com/resource/en/datasheet/stm32f058t8.pdf
pins: A1 PA12, A2 PA15, A3 PB4, A4 PB7, A5 VDD, A6 PC13, B1 PA13, B2 PA14, B3 PB3, B4 BOOT0, B5 PF0, B6 PC14, C1 PA10, C2 PA11, C3 PA4, C4 PB6, C5 PF1, C6 PC15, D1 PA9, D2 NPOR, D3 PA5, D4 PA1, D5 NRST, D6 VSSA, E1 VDD, E2 PA8, E3 PA6, E4 PA2, E5 VDDA, E6 PB5, F1 VSS, F2 PB1, F3 PB0, F4 PA7, F5 PA3, F6 PA0

## STM32F070C6Tx
designator *  value STM32F070C6Tx  Reference: U
ki_keywords: Arm Cortex-M0 STM32F0 STM32F0x0 Value Line; ki_description: STMicroelectronics Arm Cortex-M0 MCU, 32KB flash, 6KB RAM, 48 MHz, 2.4-3.6V, 37 GPIO, LQFP48; ki_fp_filters: LQFP*7x7mm*P0.5mm*; Footprint: Package_QFP:LQFP-48_7x7mm_P0.5mm; Datasheet: https://www.st.com/resource/en/datasheet/stm32f070c6.pdf
pins: 1 VDD, 2 PC13, 3 PC14, 4 PC15, 5 PF0, 6 PF1, 7 NRST, 8 VSSA, 9 VDDA, 10 PA0, 11 PA1, 12 PA2, 13 PA3, 14 PA4, 15 PA5, 16 PA6, 17 PA7, 18 PB0, 19 PB1, 20 PB2, 21 PB10, 22 PB11, 23 VSS, 24 VDD, 25 PB12, 26 PB13, 27 PB14, 28 PB15, 29 PA8, 30 PA9, 31 PA10, 32 PA11, 33 PA12, 34 PA13, 35 VSS hidden, 36 VDD, 37 PA14, 38 PA15, 39 PB3, 40 PB4, 41 PB5, 42 PB6, 43 PB7, 44 BOOT0, 45 PB8, 46 PB9, 47 VSS hidden, 48 VDD